# Altium schematic symbol library MCU_ST_STM32F4.SchLib: 300 symbols (part 8 of 11)
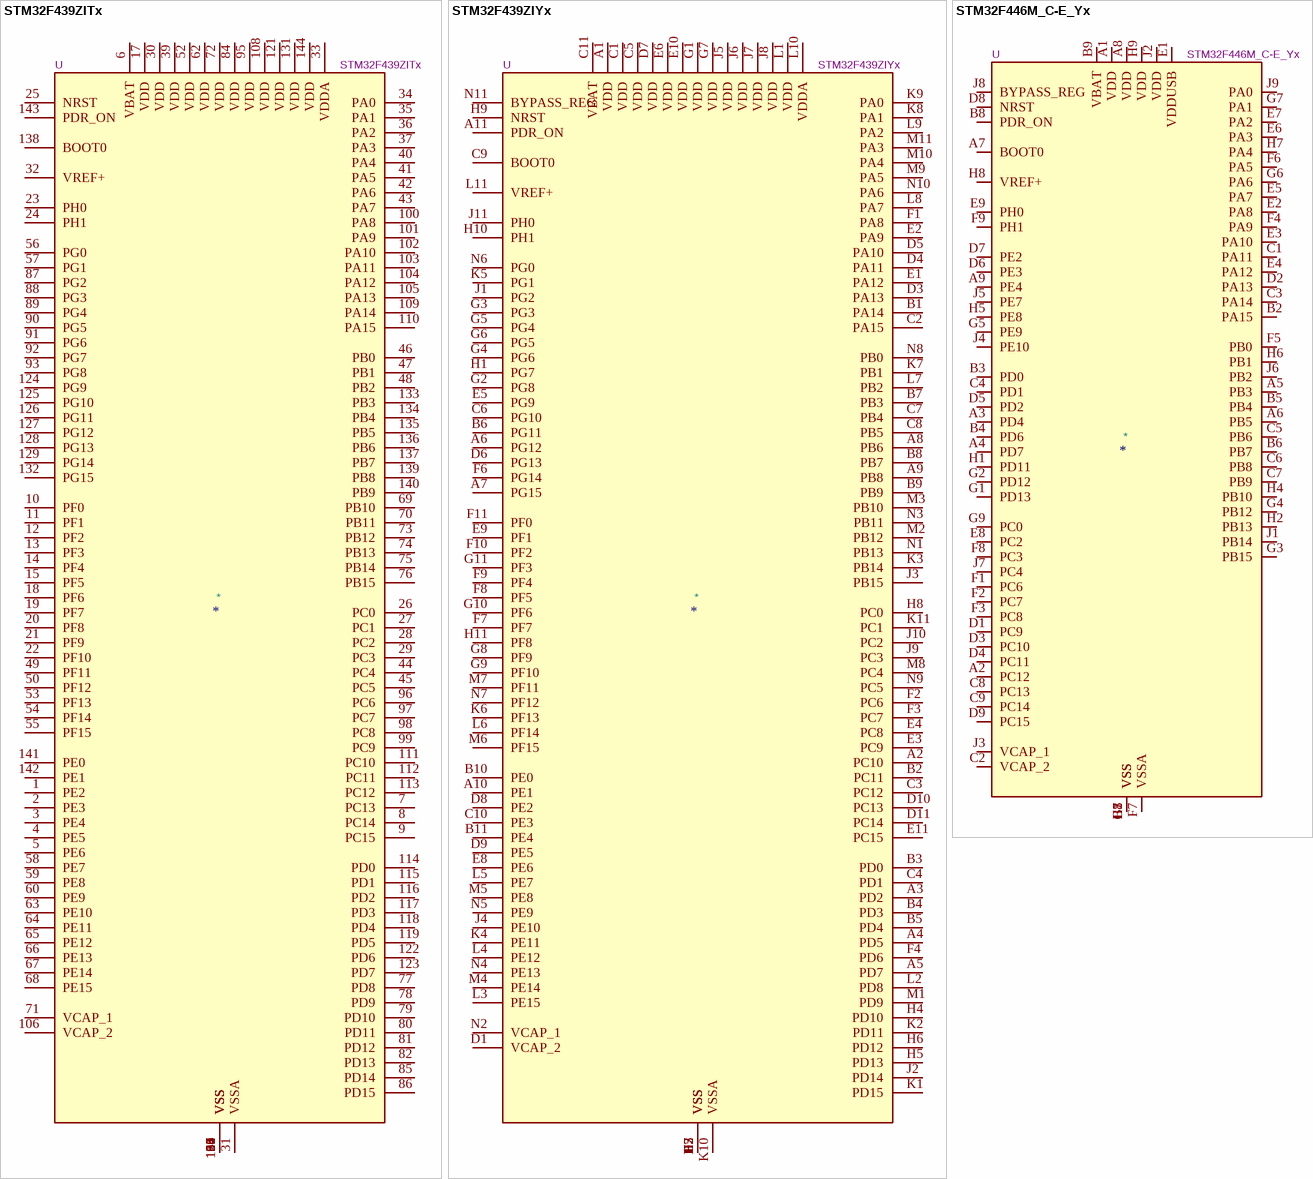
[diagram p89: symbols STM32F439ZITx to STM32F446M_C-E_Yx]

## STM32F439ZITx
designator *  value STM32F439ZITx  Reference: U
STMicroelectronics Arm Cortex-M4 MCU, 2048KB flash, 256KB RAM, 180 MHz, 1.7-3.6V, 114 GPIO, LQFP144; ki_keywords: Arm Cortex-M4 STM32F4 STM32F429/439; ki_fp_filters: LQFP*20x20mm*P0.5mm*; Footprint: Package_QFP:LQFP-144_20x20mm_P0.5mm; Datasheet: https://www.st.com/resource/en/datasheet/stm32f439zi.pdf; Description_: STMicroelectronics Arm Cortex-M4 MCU, 2048KB flash, 256KB RAM, 180 MHz, 1.7-3.6V, 114 GPIO, LQFP144
pins: 1 PE2, 2 PE3, 3 PE4, 4 PE5, 5 PE6, 6 VBAT, 7 PC13, 8 PC14, 9 PC15, 10 PF0, 11 PF1, 12 PF2, 13 PF3, 14 PF4, 15 PF5, 16 VSS, 17 VDD, 18 PF6, 19 PF7, 20 PF8, 21 PF9, 22 PF10, 23 PH0, 24 PH1, 25 NRST, 26 PC0, 27 PC1, 28 PC2, 29 PC3, 30 VDD, 31 VSSA, 32 VREF+, 33 VDDA, 34 PA0, 35 PA1, 36 PA2, 37 PA3, 38 VSS, 39 VDD, 40 PA4, 41 PA5, 42 PA6, 43 PA7, 44 PC4, 45 PC5, 46 PB0, 47 PB1, 48 PB2, 49 PF11, 50 PF12, 51 VSS, 52 VDD, 53 PF13, 54 PF14, 55 PF15, 56 PG0, 57 PG1, 58 PE7, 59 PE8, 60 PE9, 61 VSS, 62 VDD, 63 PE10, 64 PE11, 65 PE12, 66 PE13, 67 PE14, 68 PE15, 69 PB10, 70 PB11, 71 VCAP_1, 72 VDD, 73 PB12, 74 PB13, 75 PB14, 76 PB15, 77 PD8, 78 PD9, 79 PD10, 80 PD11, 81 PD12, 82 PD13, 83 VSS, 84 VDD, 85 PD14, 86 PD15, 87 PG2, 88 PG3, 89 PG4, 90 PG5, 91 PG6, 92 PG7, 93 PG8, 94 VSS, 95 VDD, 96 PC6, 97 PC7, 98 PC8, 99 PC9, 100 PA8, 101 PA9, 102 PA10, 103 PA11, 104 PA12, 105 PA13, 106 VCAP_2, 107 VSS, 108 VDD, 109 PA14, 110 PA15, 111 PC10, 112 PC11, 113 PC12, 114 PD0, 115 PD1, 116 PD2, 117 PD3, 118 PD4, 119 PD5, 120 VSS, 121 VDD, 122 PD6, 123 PD7, 124 PG9, 125 PG10, 126 PG11, 127 PG12, 128 PG13, 129 PG14, 130 VSS, 131 VDD, 132 PG15, 133 PB3, 134 PB4, 135 PB5, 136 PB6, 137 PB7, 138 BOOT0, 139 PB8, 140 PB9, 141 PE0, 142 PE1, 143 PDR_ON, 144 VDD

## STM32F439ZIYx
designator *  value STM32F439ZIYx  Reference: U
STMicroelectronics Arm Cortex-M4 MCU, 2048KB flash, 256KB RAM, 180 MHz, 1.7-3.6V, 114 GPIO, WLCSP143; ki_keywords: Arm Cortex-M4 STM32F4 STM32F429/439; ki_fp_filters: ST*WLCSP*Die419*; Footprint: Package_CSP:ST_WLCSP-143_Die419; Datasheet: https://www.st.com/resource/en/datasheet/stm32f439zi.pdf; Description_: STMicroelectronics Arm Cortex-M4 MCU, 2048KB flash, 256KB RAM, 180 MHz, 1.7-3.6V, 114 GPIO, WLCSP143
pins: A1 VDD, A2 PC10, A3 PD2, A4 PD5, A5 PD7, A6 PG12, A7 PG15, A8 PB6, A9 PB8, A10 PE1, A11 PDR_ON, B1 PA14, B2 PC11, B3 PD0, B4 PD3, B5 PD4, B6 PG11, B7 PB3, B8 PB7, B9 PB9, B10 PE0, B11 PE4, C1 VDD, C2 PA15, C3 PC12, C4 PD1, C5 VDD, C6 PG10, C7 PB4, C8 PB5, C9 BOOT0, C10 PE3, C11 VBAT, D1 VCAP_2, D2 VSS, D3 PA13, D4 PA11, D5 PA10, D6 PG13, D7 VDD, D8 PE2, D9 PE5, D10 PC13, D11 PC14, E1 PA12, E2 PA9, E3 PC9, E4 PC8, E5 PG9, E6 VDD, E7 VSS, E8 PE6, E9 PF1, E10 VDD, E11 PC15, F1 PA8, F2 PC6, F3 PC7, F4 PD6, F5 VSS, F6 PG14, F7 PF7, F8 PF5, F9 PF4, F10 PF2, F11 PF0, G1 VDD, G2 PG8, G3 PG3, G4 PG6, G5 PG4, G6 PG5, G7 VDD, G8 PF9, G9 PF10, G10 PF6, G11 PF3, H1 PG7, H2 VSS, H3 VSS, H4 PD10, H5 PD13, H6 PD12, H7 VSS, H8 PC0, H9 NRST, H10 PH1, H11 PF8, J1 PG2, J2 PD14, J3 PB15, J4 PE10, J5 VDD, J6 VDD, J7 VDD, J8 VDD, J9 PC3, J10 PC2, J11 PH0, K1 PD15, K2 PD11, K3 PB14, K4 PE11, K5 PG1, K6 PF13, K7 PB1, K8 PA1, K9 PA0, K10 VSSA, K11 PC1, L1 VDD, L2 PD8, L3 PE15, L4 PE12, L5 PE7, L6 PF14, L7 PB2, L8 PA7, L9 PA2, L10 VDDA, L11 VREF+, M1 PD9, M2 PB12, M3 PB10, M4 PE14, M5 PE8, M6 PF15, M7 PF11, M8 PC4, M9 PA5, M10 PA4, M11 PA3, N1 PB13, N2 VCAP_1, N3 PB11, N4 PE13, N5 PE9, N6 PG0, N7 PF12, N8 PB0, N9 PC5, N10 PA6, N11 BYPASS_REG

## STM32F446M_C-E_Yx
designator *  value STM32F446M_C-E_Yx  Reference: U
STMicroelectronics Arm Cortex-M4 MCU, 256-512KB flash, 128KB RAM, 180 MHz, 1.8-3.6V, 63 GPIO, WLCSP81; ki_keywords: Arm Cortex-M4 STM32F4 STM32F446; ki_fp_filters: ST*WLCSP*Die421*; Footprint: Package_CSP:ST_WLCSP-81_Die421; Datasheet: https://www.st.com/resource/en/datasheet/stm32f446mc.pdf; Description_: STMicroelectronics Arm Cortex-M4 MCU, 256-512KB flash, 128KB RAM, 180 MHz, 1.8-3.6V, 63 GPIO, WLCSP81
pins: A1 VDD, A2 PC12, A3 PD4, A4 PD7, A5 PB3, A6 PB5, A7 BOOT0, A8 VDD, A9 PE4, B1 VSS, B2 PA15, B3 PD0, B4 PD6, B5 PB4, B6 PB7, B7 VSS, B8 PDR_ON, B9 VBAT, C1 PA11, C2 VCAP_2, C3 PA14, C4 PD1, C5 PB6, C6 PB8, C7 PB9, C8 PC13, C9 PC14, D1 PC9, D2 PA13, D3 PC10, D4 PC11, D5 PD2, D6 PE3, D7 PE2, D8 NRST, D9 PC15, E1 VDDUSB, E2 PA8, E3 PA10, E4 PA12, E5 PA7, E6 PA3, E7 PA2, E8 PC2, E9 PH0, F1 PC6, F2 PC7, F3 PC8, F4 PA9, F5 PB0, F6 PA5, F7 VSSA, F8 PC3, F9 PH1, G1 PD13, G2 PD12, G3 PB15, G4 PB12, G5 PE9, G6 PA6, G7 PA1, G8 VSS, G9 PC0, H1 PD11, H2 PB13, H3 VSS, H4 PB10, H5 PE8, H6 PB1, H7 PA4, H8 VREF+, H9 VDD, J1 PB14, J2 VDD, J3 VCAP_1, J4 PE10, J5 PE7, J6 PB2, J7 PC4, J8 BYPASS_REG, J9 PA0

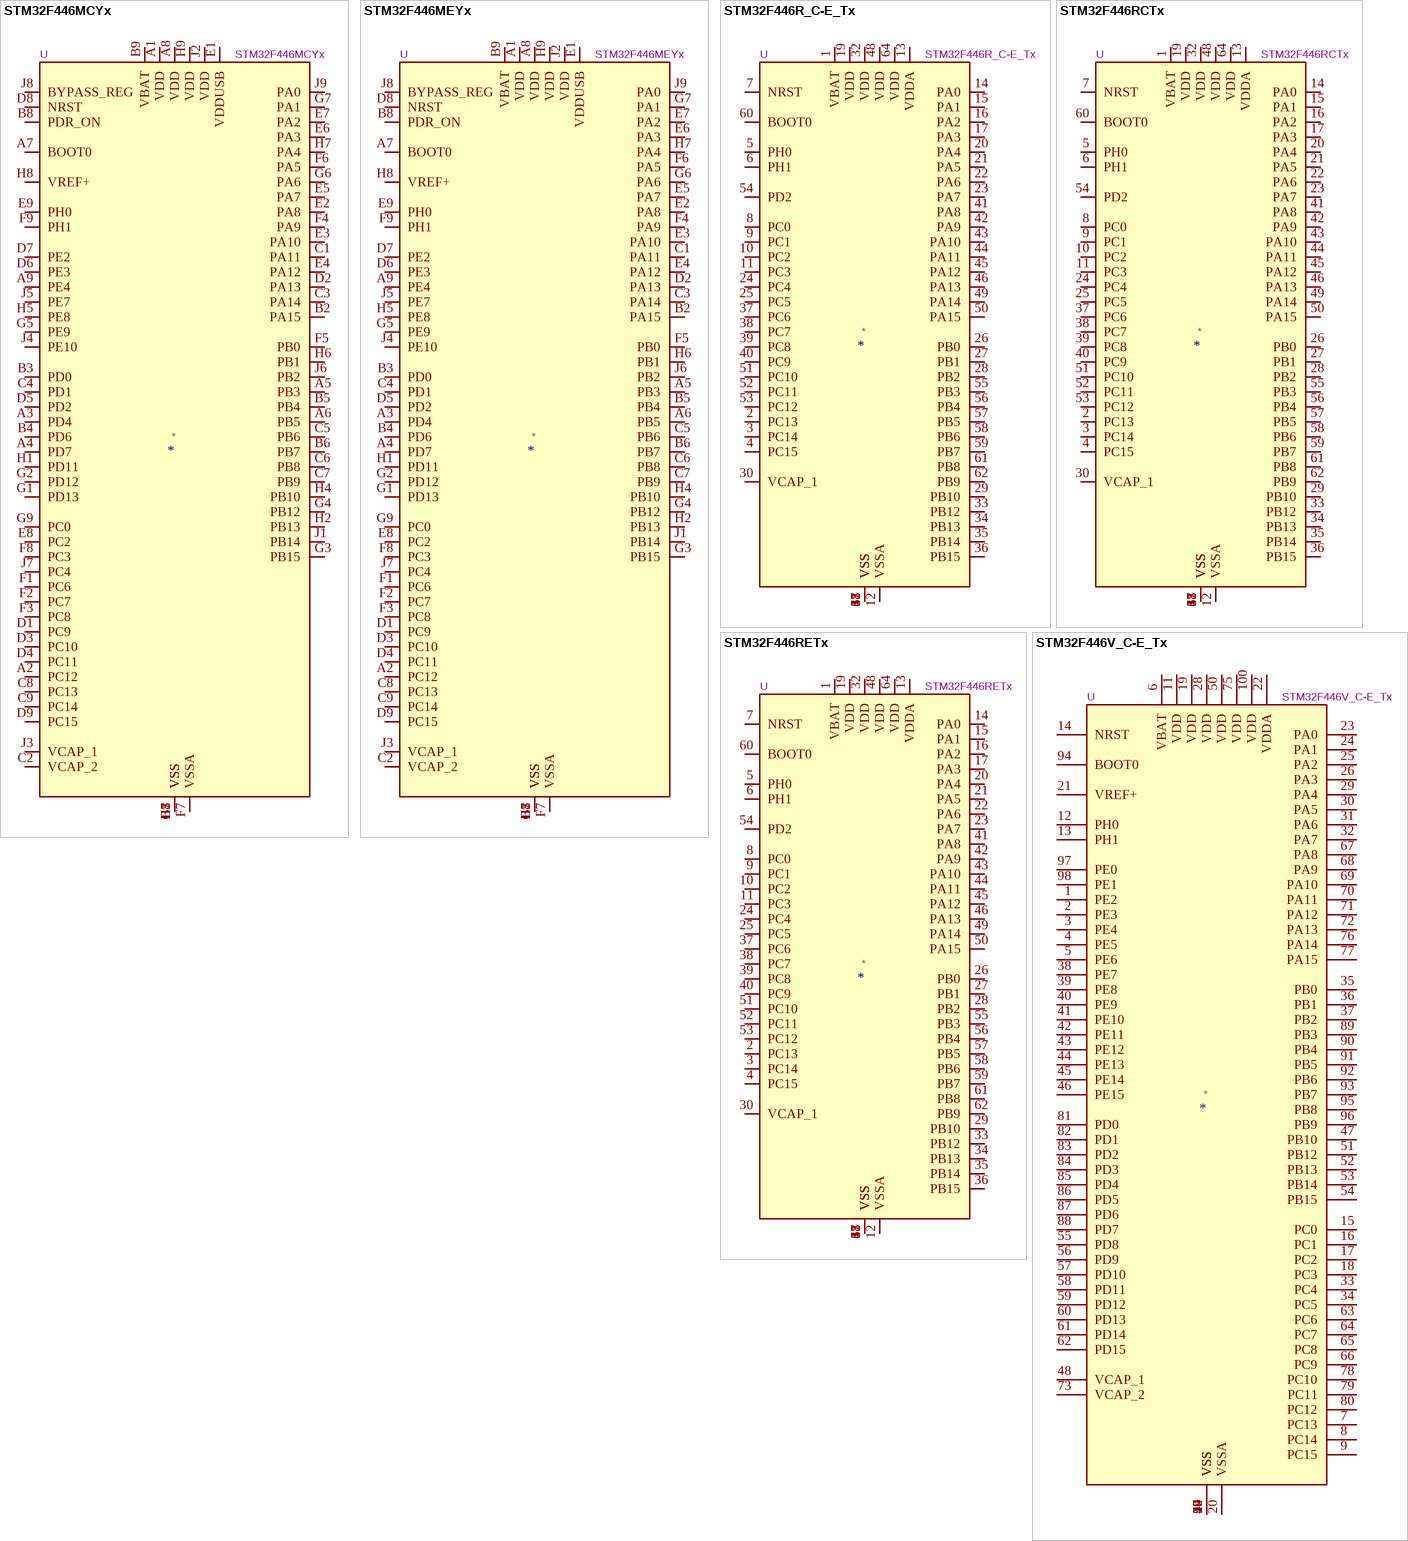
[diagram p56: symbols STM32F446MCYx to STM32F446V_C-E_Tx]

## STM32F446MCYx
designator *  value STM32F446MCYx  Reference: U
STMicroelectronics Arm Cortex-M4 MCU, 256KB flash, 128KB RAM, 180 MHz, 1.8-3.6V, 63 GPIO, WLCSP81; ki_keywords: Arm Cortex-M4 STM32F4 STM32F446; ki_fp_filters: ST*WLCSP*Die421*; Footprint: Package_CSP:ST_WLCSP-81_Die421; Datasheet: https://www.st.com/resource/en/datasheet/stm32f446mc.pdf; Description_: STMicroelectronics Arm Cortex-M4 MCU, 256KB flash, 128KB RAM, 180 MHz, 1.8-3.6V, 63 GPIO, WLCSP81
pins: A1 VDD, A2 PC12, A3 PD4, A4 PD7, A5 PB3, A6 PB5, A7 BOOT0, A8 VDD, A9 PE4, B1 VSS, B2 PA15, B3 PD0, B4 PD6, B5 PB4, B6 PB7, B7 VSS, B8 PDR_ON, B9 VBAT, C1 PA11, C2 VCAP_2, C3 PA14, C4 PD1, C5 PB6, C6 PB8, C7 PB9, C8 PC13, C9 PC14, D1 PC9, D2 PA13, D3 PC10, D4 PC11, D5 PD2, D6 PE3, D7 PE2, D8 NRST, D9 PC15, E1 VDDUSB, E2 PA8, E3 PA10, E4 PA12, E5 PA7, E6 PA3, E7 PA2, E8 PC2, E9 PH0, F1 PC6, F2 PC7, F3 PC8, F4 PA9, F5 PB0, F6 PA5, F7 VSSA, F8 PC3, F9 PH1, G1 PD13, G2 PD12, G3 PB15, G4 PB12, G5 PE9, G6 PA6, G7 PA1, G8 VSS, G9 PC0, H1 PD11, H2 PB13, H3 VSS, H4 PB10, H5 PE8, H6 PB1, H7 PA4, H8 VREF+, H9 VDD, J1 PB14, J2 VDD, J3 VCAP_1, J4 PE10, J5 PE7, J6 PB2, J7 PC4, J8 BYPASS_REG, J9 PA0

## STM32F446MEYx
designator *  value STM32F446MEYx  Reference: U
STMicroelectronics Arm Cortex-M4 MCU, 512KB flash, 128KB RAM, 180 MHz, 1.8-3.6V, 63 GPIO, WLCSP81; ki_keywords: Arm Cortex-M4 STM32F4 STM32F446; ki_fp_filters: ST*WLCSP*Die421*; Footprint: Package_CSP:ST_WLCSP-81_Die421; Datasheet: https://www.st.com/resource/en/datasheet/stm32f446me.pdf; Description_: STMicroelectronics Arm Cortex-M4 MCU, 512KB flash, 128KB RAM, 180 MHz, 1.8-3.6V, 63 GPIO, WLCSP81
pins: A1 VDD, A2 PC12, A3 PD4, A4 PD7, A5 PB3, A6 PB5, A7 BOOT0, A8 VDD, A9 PE4, B1 VSS, B2 PA15, B3 PD0, B4 PD6, B5 PB4, B6 PB7, B7 VSS, B8 PDR_ON, B9 VBAT, C1 PA11, C2 VCAP_2, C3 PA14, C4 PD1, C5 PB6, C6 PB8, C7 PB9, C8 PC13, C9 PC14, D1 PC9, D2 PA13, D3 PC10, D4 PC11, D5 PD2, D6 PE3, D7 PE2, D8 NRST, D9 PC15, E1 VDDUSB, E2 PA8, E3 PA10, E4 PA12, E5 PA7, E6 PA3, E7 PA2, E8 PC2, E9 PH0, F1 PC6, F2 PC7, F3 PC8, F4 PA9, F5 PB0, F6 PA5, F7 VSSA, F8 PC3, F9 PH1, G1 PD13, G2 PD12, G3 PB15, G4 PB12, G5 PE9, G6 PA6, G7 PA1, G8 VSS, G9 PC0, H1 PD11, H2 PB13, H3 VSS, H4 PB10, H5 PE8, H6 PB1, H7 PA4, H8 VREF+, H9 VDD, J1 PB14, J2 VDD, J3 VCAP_1, J4 PE10, J5 PE7, J6 PB2, J7 PC4, J8 BYPASS_REG, J9 PA0

## STM32F446R_C-E_Tx
designator *  value STM32F446R_C-E_Tx  Reference: U
STMicroelectronics Arm Cortex-M4 MCU, 256-512KB flash, 128KB RAM, 180 MHz, 1.8-3.6V, 50 GPIO, LQFP64; ki_keywords: Arm Cortex-M4 STM32F4 STM32F446; ki_fp_filters: LQFP*10x10mm*P0.5mm*; Footprint: Package_QFP:LQFP-64_10x10mm_P0.5mm; Datasheet: https://www.st.com/resource/en/datasheet/stm32f446rc.pdf; Description_: STMicroelectronics Arm Cortex-M4 MCU, 256-512KB flash, 128KB RAM, 180 MHz, 1.8-3.6V, 50 GPIO, LQFP64
pins: 1 VBAT, 2 PC13, 3 PC14, 4 PC15, 5 PH0, 6 PH1, 7 NRST, 8 PC0, 9 PC1, 10 PC2, 11 PC3, 12 VSSA, 13 VDDA, 14 PA0, 15 PA1, 16 PA2, 17 PA3, 18 VSS, 19 VDD, 20 PA4, 21 PA5, 22 PA6, 23 PA7, 24 PC4, 25 PC5, 26 PB0, 27 PB1, 28 PB2, 29 PB10, 30 VCAP_1, 31 VSS, 32 VDD, 33 PB12, 34 PB13, 35 PB14, 36 PB15, 37 PC6, 38 PC7, 39 PC8, 40 PC9, 41 PA8, 42 PA9, 43 PA10, 44 PA11, 45 PA12, 46 PA13, 47 VSS, 48 VDD, 49 PA14, 50 PA15, 51 PC10, 52 PC11, 53 PC12, 54 PD2, 55 PB3, 56 PB4, 57 PB5, 58 PB6, 59 PB7, 60 BOOT0, 61 PB8, 62 PB9, 63 VSS, 64 VDD

## STM32F446RCTx
designator *  value STM32F446RCTx  Reference: U
STMicroelectronics Arm Cortex-M4 MCU, 256KB flash, 128KB RAM, 180 MHz, 1.8-3.6V, 50 GPIO, LQFP64; ki_keywords: Arm Cortex-M4 STM32F4 STM32F446; ki_fp_filters: LQFP*10x10mm*P0.5mm*; Footprint: Package_QFP:LQFP-64_10x10mm_P0.5mm; Datasheet: https://www.st.com/resource/en/datasheet/stm32f446rc.pdf; Description_: STMicroelectronics Arm Cortex-M4 MCU, 256KB flash, 128KB RAM, 180 MHz, 1.8-3.6V, 50 GPIO, LQFP64
pins: 1 VBAT, 2 PC13, 3 PC14, 4 PC15, 5 PH0, 6 PH1, 7 NRST, 8 PC0, 9 PC1, 10 PC2, 11 PC3, 12 VSSA, 13 VDDA, 14 PA0, 15 PA1, 16 PA2, 17 PA3, 18 VSS, 19 VDD, 20 PA4, 21 PA5, 22 PA6, 23 PA7, 24 PC4, 25 PC5, 26 PB0, 27 PB1, 28 PB2, 29 PB10, 30 VCAP_1, 31 VSS, 32 VDD, 33 PB12, 34 PB13, 35 PB14, 36 PB15, 37 PC6, 38 PC7, 39 PC8, 40 PC9, 41 PA8, 42 PA9, 43 PA10, 44 PA11, 45 PA12, 46 PA13, 47 VSS, 48 VDD, 49 PA14, 50 PA15, 51 PC10, 52 PC11, 53 PC12, 54 PD2, 55 PB3, 56 PB4, 57 PB5, 58 PB6, 59 PB7, 60 BOOT0, 61 PB8, 62 PB9, 63 VSS, 64 VDD

## STM32F446RETx
designator *  value STM32F446RETx  Reference: U
STMicroelectronics Arm Cortex-M4 MCU, 512KB flash, 128KB RAM, 180 MHz, 1.8-3.6V, 50 GPIO, LQFP64; ki_keywords: Arm Cortex-M4 STM32F4 STM32F446; ki_fp_filters: LQFP*10x10mm*P0.5mm*; Footprint: Package_QFP:LQFP-64_10x10mm_P0.5mm; Datasheet: https://www.st.com/resource/en/datasheet/stm32f446re.pdf; Description_: STMicroelectronics Arm Cortex-M4 MCU, 512KB flash, 128KB RAM, 180 MHz, 1.8-3.6V, 50 GPIO, LQFP64
pins: 1 VBAT, 2 PC13, 3 PC14, 4 PC15, 5 PH0, 6 PH1, 7 NRST, 8 PC0, 9 PC1, 10 PC2, 11 PC3, 12 VSSA, 13 VDDA, 14 PA0, 15 PA1, 16 PA2, 17 PA3, 18 VSS, 19 VDD, 20 PA4, 21 PA5, 22 PA6, 23 PA7, 24 PC4, 25 PC5, 26 PB0, 27 PB1, 28 PB2, 29 PB10, 30 VCAP_1, 31 VSS, 32 VDD, 33 PB12, 34 PB13, 35 PB14, 36 PB15, 37 PC6, 38 PC7, 39 PC8, 40 PC9, 41 PA8, 42 PA9, 43 PA10, 44 PA11, 45 PA12, 46 PA13, 47 VSS, 48 VDD, 49 PA14, 50 PA15, 51 PC10, 52 PC11, 53 PC12, 54 PD2, 55 PB3, 56 PB4, 57 PB5, 58 PB6, 59 PB7, 60 BOOT0, 61 PB8, 62 PB9, 63 VSS, 64 VDD

## STM32F446V_C-E_Tx
designator *  value STM32F446V_C-E_Tx  Reference: U
STMicroelectronics Arm Cortex-M4 MCU, 256-512KB flash, 128KB RAM, 180 MHz, 1.8-3.6V, 81 GPIO, LQFP100; ki_keywords: Arm Cortex-M4 STM32F4 STM32F446; ki_fp_filters: LQFP*14x14mm*P0.5mm*; Footprint: Package_QFP:LQFP-100_14x14mm_P0.5mm; Datasheet: https://www.st.com/resource/en/datasheet/stm32f446vc.pdf; Description_: STMicroelectronics Arm Cortex-M4 MCU, 256-512KB flash, 128KB RAM, 180 MHz, 1.8-3.6V, 81 GPIO, LQFP100
pins: 1 PE2, 2 PE3, 3 PE4, 4 PE5, 5 PE6, 6 VBAT, 7 PC13, 8 PC14, 9 PC15, 10 VSS, 11 VDD, 12 PH0, 13 PH1, 14 NRST, 15 PC0, 16 PC1, 17 PC2, 18 PC3, 19 VDD, 20 VSSA, 21 VREF+, 22 VDDA, 23 PA0, 24 PA1, 25 PA2, 26 PA3, 27 VSS, 28 VDD, 29 PA4, 30 PA5, 31 PA6, 32 PA7, 33 PC4, 34 PC5, 35 PB0, 36 PB1, 37 PB2, 38 PE7, 39 PE8, 40 PE9, 41 PE10, 42 PE11, 43 PE12, 44 PE13, 45 PE14, 46 PE15, 47 PB10, 48 VCAP_1, 49 VSS, 50 VDD, 51 PB12, 52 PB13, 53 PB14, 54 PB15, 55 PD8, 56 PD9, 57 PD10, 58 PD11, 59 PD12, 60 PD13, 61 PD14, 62 PD15, 63 PC6, 64 PC7, 65 PC8, 66 PC9, 67 PA8, 68 PA9, 69 PA10, 70 PA11, 71 PA12, 72 PA13, 73 VCAP_2, 74 VSS, 75 VDD, 76 PA14, 77 PA15, 78 PC10, 79 PC11, 80 PC12, 81 PD0, 82 PD1, 83 PD2, 84 PD3, 85 PD4, 86 PD5, 87 PD6, 88 PD7, 89 PB3, 90 PB4, 91 PB5, 92 PB6, 93 PB7, 94 BOOT0, 95 PB8, 96 PB9, 97 PE0, 98 PE1, 99 VSS, 100 VDD

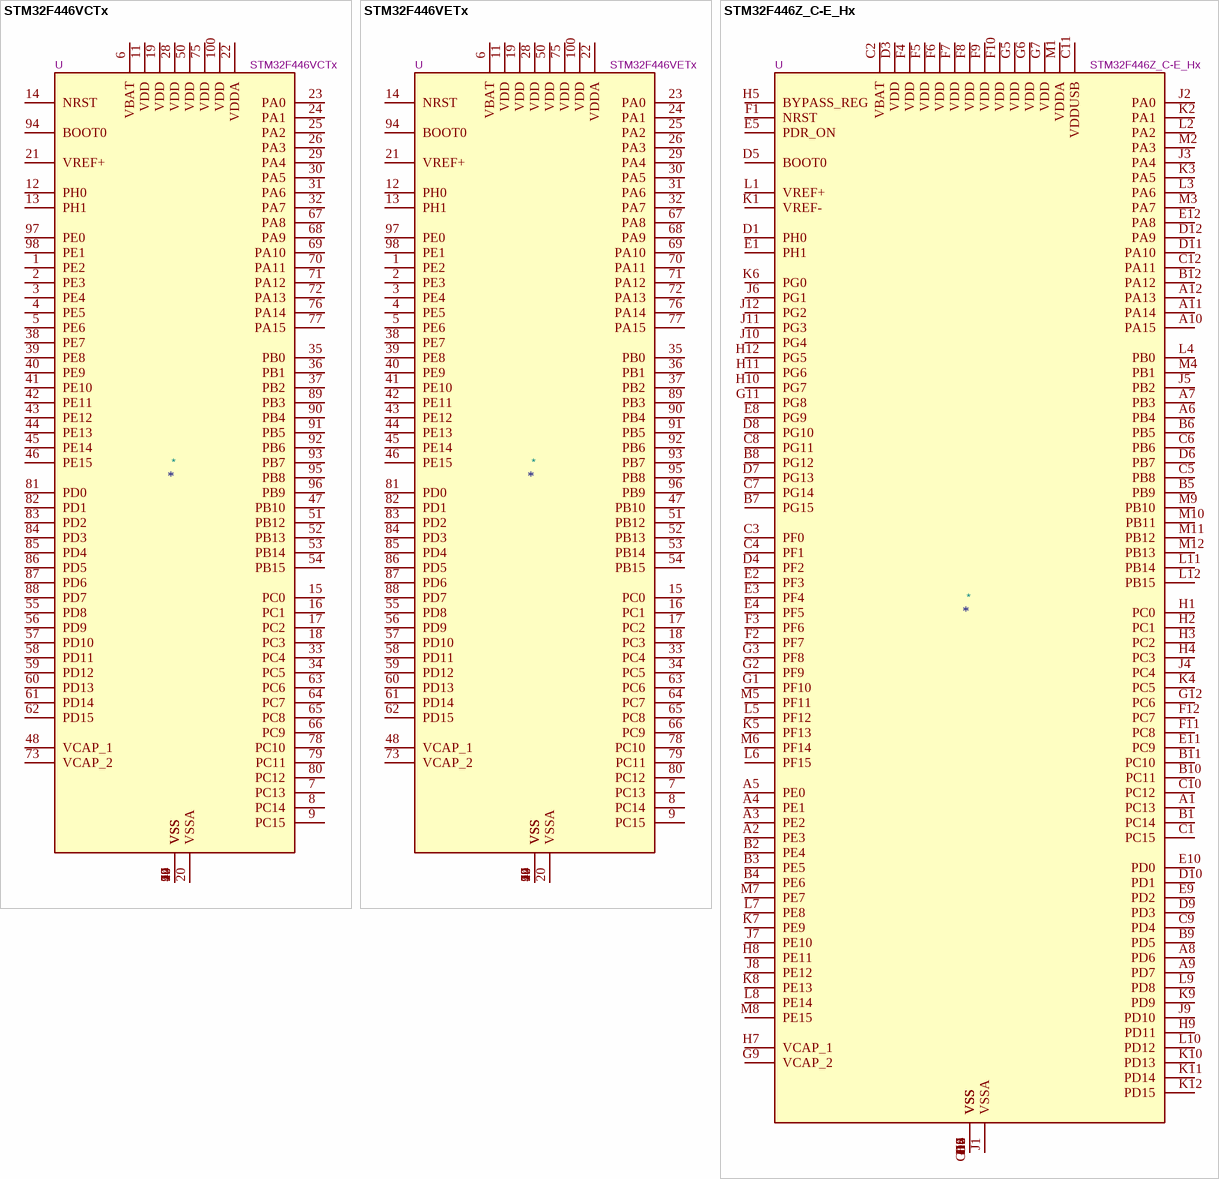
[diagram p57: symbols STM32F446VCTx to STM32F446Z_C-E_Hx]

## STM32F446VCTx
designator *  value STM32F446VCTx  Reference: U
STMicroelectronics Arm Cortex-M4 MCU, 256KB flash, 128KB RAM, 180 MHz, 1.8-3.6V, 81 GPIO, LQFP100; ki_keywords: Arm Cortex-M4 STM32F4 STM32F446; ki_fp_filters: LQFP*14x14mm*P0.5mm*; Footprint: Package_QFP:LQFP-100_14x14mm_P0.5mm; Datasheet: https://www.st.com/resource/en/datasheet/stm32f446vc.pdf; Description_: STMicroelectronics Arm Cortex-M4 MCU, 256KB flash, 128KB RAM, 180 MHz, 1.8-3.6V, 81 GPIO, LQFP100
pins: 1 PE2, 2 PE3, 3 PE4, 4 PE5, 5 PE6, 6 VBAT, 7 PC13, 8 PC14, 9 PC15, 10 VSS, 11 VDD, 12 PH0, 13 PH1, 14 NRST, 15 PC0, 16 PC1, 17 PC2, 18 PC3, 19 VDD, 20 VSSA, 21 VREF+, 22 VDDA, 23 PA0, 24 PA1, 25 PA2, 26 PA3, 27 VSS, 28 VDD, 29 PA4, 30 PA5, 31 PA6, 32 PA7, 33 PC4, 34 PC5, 35 PB0, 36 PB1, 37 PB2, 38 PE7, 39 PE8, 40 PE9, 41 PE10, 42 PE11, 43 PE12, 44 PE13, 45 PE14, 46 PE15, 47 PB10, 48 VCAP_1, 49 VSS, 50 VDD, 51 PB12, 52 PB13, 53 PB14, 54 PB15, 55 PD8, 56 PD9, 57 PD10, 58 PD11, 59 PD12, 60 PD13, 61 PD14, 62 PD15, 63 PC6, 64 PC7, 65 PC8, 66 PC9, 67 PA8, 68 PA9, 69 PA10, 70 PA11, 71 PA12, 72 PA13, 73 VCAP_2, 74 VSS, 75 VDD, 76 PA14, 77 PA15, 78 PC10, 79 PC11, 80 PC12, 81 PD0, 82 PD1, 83 PD2, 84 PD3, 85 PD4, 86 PD5, 87 PD6, 88 PD7, 89 PB3, 90 PB4, 91 PB5, 92 PB6, 93 PB7, 94 BOOT0, 95 PB8, 96 PB9, 97 PE0, 98 PE1, 99 VSS, 100 VDD

## STM32F446VETx
designator *  value STM32F446VETx  Reference: U
STMicroelectronics Arm Cortex-M4 MCU, 512KB flash, 128KB RAM, 180 MHz, 1.8-3.6V, 81 GPIO, LQFP100; ki_keywords: Arm Cortex-M4 STM32F4 STM32F446; ki_fp_filters: LQFP*14x14mm*P0.5mm*; Footprint: Package_QFP:LQFP-100_14x14mm_P0.5mm; Datasheet: https://www.st.com/resource/en/datasheet/stm32f446ve.pdf; Description_: STMicroelectronics Arm Cortex-M4 MCU, 512KB flash, 128KB RAM, 180 MHz, 1.8-3.6V, 81 GPIO, LQFP100
pins: 1 PE2, 2 PE3, 3 PE4, 4 PE5, 5 PE6, 6 VBAT, 7 PC13, 8 PC14, 9 PC15, 10 VSS, 11 VDD, 12 PH0, 13 PH1, 14 NRST, 15 PC0, 16 PC1, 17 PC2, 18 PC3, 19 VDD, 20 VSSA, 21 VREF+, 22 VDDA, 23 PA0, 24 PA1, 25 PA2, 26 PA3, 27 VSS, 28 VDD, 29 PA4, 30 PA5, 31 PA6, 32 PA7, 33 PC4, 34 PC5, 35 PB0, 36 PB1, 37 PB2, 38 PE7, 39 PE8, 40 PE9, 41 PE10, 42 PE11, 43 PE12, 44 PE13, 45 PE14, 46 PE15, 47 PB10, 48 VCAP_1, 49 VSS, 50 VDD, 51 PB12, 52 PB13, 53 PB14, 54 PB15, 55 PD8, 56 PD9, 57 PD10, 58 PD11, 59 PD12, 60 PD13, 61 PD14, 62 PD15, 63 PC6, 64 PC7, 65 PC8, 66 PC9, 67 PA8, 68 PA9, 69 PA10, 70 PA11, 71 PA12, 72 PA13, 73 VCAP_2, 74 VSS, 75 VDD, 76 PA14, 77 PA15, 78 PC10, 79 PC11, 80 PC12, 81 PD0, 82 PD1, 83 PD2, 84 PD3, 85 PD4, 86 PD5, 87 PD6, 88 PD7, 89 PB3, 90 PB4, 91 PB5, 92 PB6, 93 PB7, 94 BOOT0, 95 PB8, 96 PB9, 97 PE0, 98 PE1, 99 VSS, 100 VDD

## STM32F446Z_C-E_Hx
designator *  value STM32F446Z_C-E_Hx  Reference: U
STMicroelectronics Arm Cortex-M4 MCU, 256-512KB flash, 128KB RAM, 180 MHz, 1.8-3.6V, 114 GPIO, UFBGA144; ki_keywords: Arm Cortex-M4 STM32F4 STM32F446; ki_fp_filters: UFBGA*7x7mm*Layout12x12*P0.5mm*; Footprint: Package_BGA:UFBGA-144_7x7mm_Layout12x12_P0.5mm; Datasheet: https://www.st.com/resource/en/datasheet/stm32f446zc.pdf; Description_: STMicroelectronics Arm Cortex-M4 MCU, 256-512KB flash, 128KB RAM, 180 MHz, 1.8-3.6V, 114 GPIO, UFBGA144
pins: A1 PC13, A2 PE3, A3 PE2, A4 PE1, A5 PE0, A6 PB4, A7 PB3, A8 PD6, A9 PD7, A10 PA15, A11 PA14, A12 PA13, B1 PC14, B2 PE4, B3 PE5, B4 PE6, B5 PB9, B6 PB5, B7 PG15, B8 PG12, B9 PD5, B10 PC11, B11 PC10, B12 PA12, C1 PC15, C2 VBAT, C3 PF0, C4 PF1, C5 PB8, C6 PB6, C7 PG14, C8 PG11, C9 PD4, C10 PC12, C11 VDDUSB, C12 PA11, D1 PH0, D2 VSS, D3 VDD, D4 PF2, D5 BOOT0, D6 PB7, D7 PG13, D8 PG10, D9 PD3, D10 PD1, D11 PA10, D12 PA9, E1 PH1, E2 PF3, E3 PF4, E4 PF5, E5 PDR_ON, E6 VSS, E7 VSS, E8 PG9, E9 PD2, E10 PD0, E11 PC9, E12 PA8, F1 NRST, F2 PF7, F3 PF6, F4 VDD, F5 VDD, F6 VDD, F7 VDD, F8 VDD, F9 VDD, F10 VDD, F11 PC8, F12 PC7, G1 PF10, G2 PF9, G3 PF8, G4 VSS, G5 VDD, G6 VDD, G7 VDD, G8 VSS, G9 VCAP_2, G10 VSS, G11 PG8, G12 PC6, H1 PC0, H2 PC1, H3 PC2, H4 PC3, H5 BYPASS_REG, H6 VSS, H7 VCAP_1, H8 PE11, H9 PD11, H10 PG7, H11 PG6, H12 PG5, J1 VSSA, J2 PA0, J3 PA4, J4 PC4, J5 PB2, J6 PG1, J7 PE10, J8 PE12, J9 PD10, J10 PG4, J11 PG3, J12 PG2, K1 VREF-, K2 PA1, K3 PA5, K4 PC5, K5 PF13, K6 PG0, K7 PE9, K8 PE13, K9 PD9, K10 PD13, K11 PD14, K12 PD15, L1 VREF+, L2 PA2, L3 PA6, L4 PB0, L5 PF12, L6 PF15, L7 PE8, L8 PE14, L9 PD8, L10 PD12, L11 PB14, L12 PB15, M1 VDDA, M2 PA3, M3 PA7, M4 PB1, M5 PF11, M6 PF14, M7 PE7, M8 PE15, M9 PB10, M10 PB11, M11 PB12, M12 PB13

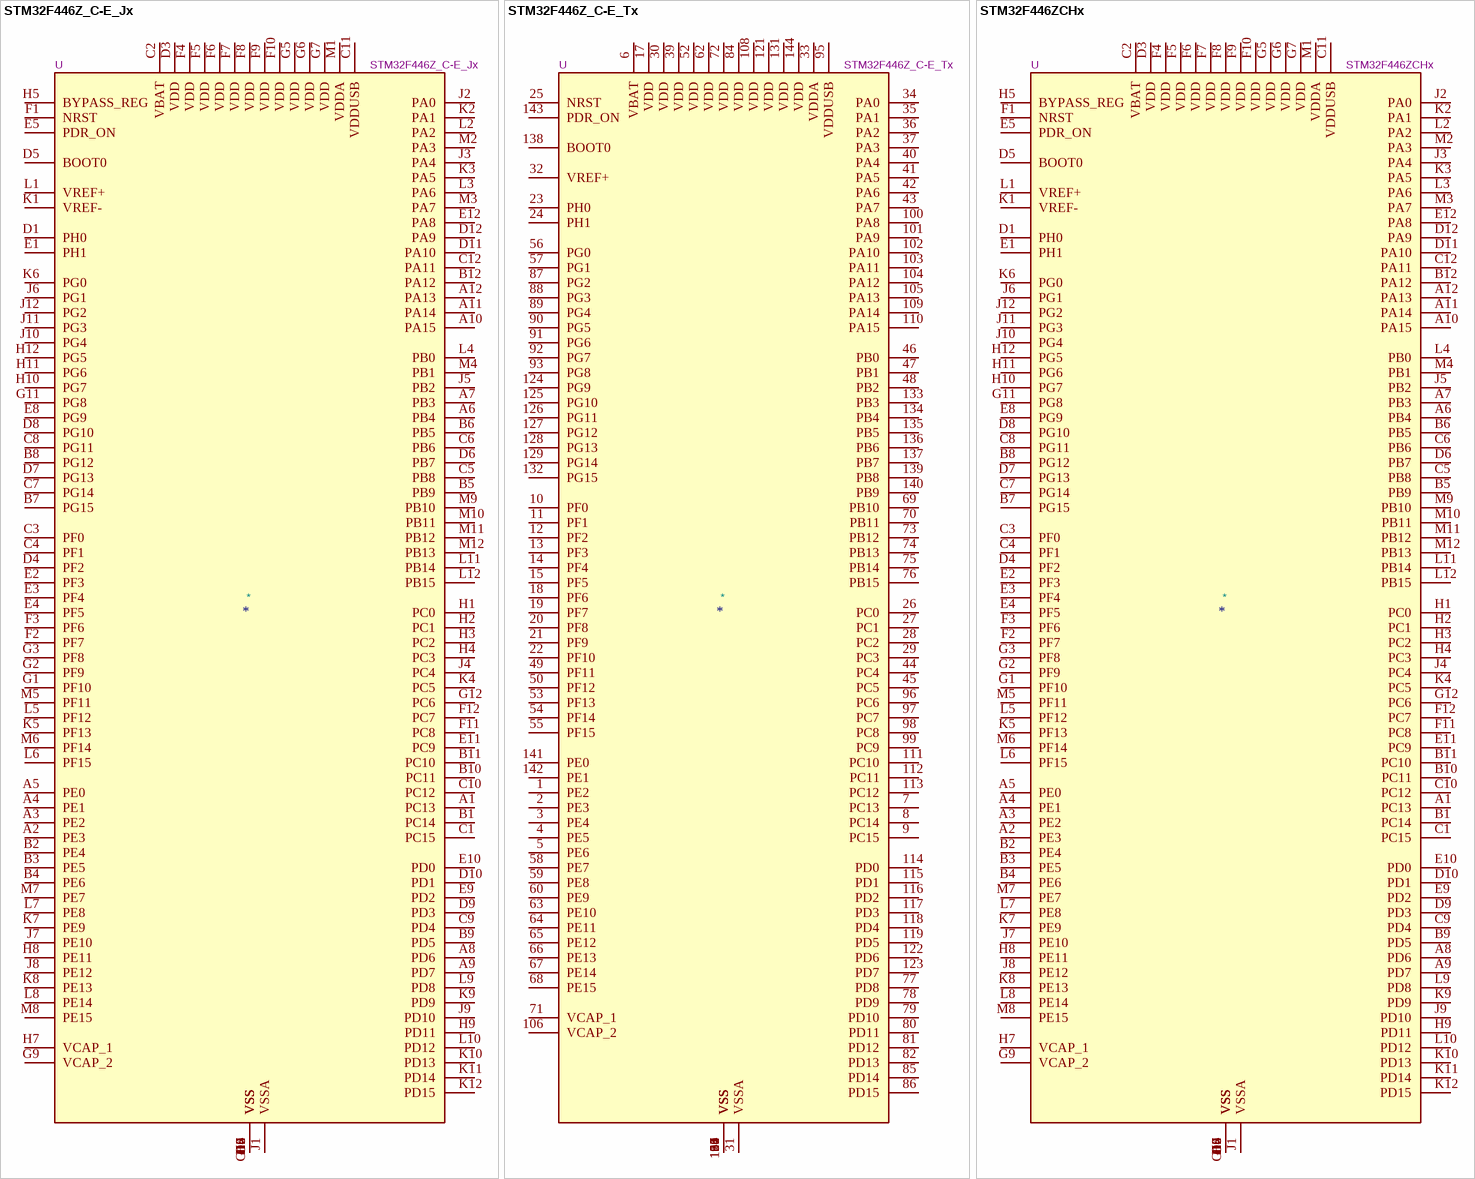
[diagram p58: symbols STM32F446Z_C-E_Jx to STM32F446ZCHx]

## STM32F446Z_C-E_Jx
designator *  value STM32F446Z_C-E_Jx  Reference: U
STMicroelectronics Arm Cortex-M4 MCU, 256-512KB flash, 128KB RAM, 180 MHz, 1.8-3.6V, 114 GPIO, UFBGA144; ki_keywords: Arm Cortex-M4 STM32F4 STM32F446; ki_fp_filters: UFBGA*10x10mm*Layout12x12*P0.8mm*; Footprint: Package_BGA:UFBGA-144_10x10mm_Layout12x12_P0.8mm; Datasheet: https://www.st.com/resource/en/datasheet/stm32f446zc.pdf; Description_: STMicroelectronics Arm Cortex-M4 MCU, 256-512KB flash, 128KB RAM, 180 MHz, 1.8-3.6V, 114 GPIO, UFBGA144
pins: A1 PC13, A2 PE3, A3 PE2, A4 PE1, A5 PE0, A6 PB4, A7 PB3, A8 PD6, A9 PD7, A10 PA15, A11 PA14, A12 PA13, B1 PC14, B2 PE4, B3 PE5, B4 PE6, B5 PB9, B6 PB5, B7 PG15, B8 PG12, B9 PD5, B10 PC11, B11 PC10, B12 PA12, C1 PC15, C2 VBAT, C3 PF0, C4 PF1, C5 PB8, C6 PB6, C7 PG14, C8 PG11, C9 PD4, C10 PC12, C11 VDDUSB, C12 PA11, D1 PH0, D2 VSS, D3 VDD, D4 PF2, D5 BOOT0, D6 PB7, D7 PG13, D8 PG10, D9 PD3, D10 PD1, D11 PA10, D12 PA9, E1 PH1, E2 PF3, E3 PF4, E4 PF5, E5 PDR_ON, E6 VSS, E7 VSS, E8 PG9, E9 PD2, E10 PD0, E11 PC9, E12 PA8, F1 NRST, F2 PF7, F3 PF6, F4 VDD, F5 VDD, F6 VDD, F7 VDD, F8 VDD, F9 VDD, F10 VDD, F11 PC8, F12 PC7, G1 PF10, G2 PF9, G3 PF8, G4 VSS, G5 VDD, G6 VDD, G7 VDD, G8 VSS, G9 VCAP_2, G10 VSS, G11 PG8, G12 PC6, H1 PC0, H2 PC1, H3 PC2, H4 PC3, H5 BYPASS_REG, H6 VSS, H7 VCAP_1, H8 PE11, H9 PD11, H10 PG7, H11 PG6, H12 PG5, J1 VSSA, J2 PA0, J3 PA4, J4 PC4, J5 PB2, J6 PG1, J7 PE10, J8 PE12, J9 PD10, J10 PG4, J11 PG3, J12 PG2, K1 VREF-, K2 PA1, K3 PA5, K4 PC5, K5 PF13, K6 PG0, K7 PE9, K8 PE13, K9 PD9, K10 PD13, K11 PD14, K12 PD15, L1 VREF+, L2 PA2, L3 PA6, L4 PB0, L5 PF12, L6 PF15, L7 PE8, L8 PE14, L9 PD8, L10 PD12, L11 PB14, L12 PB15, M1 VDDA, M2 PA3, M3 PA7, M4 PB1, M5 PF11, M6 PF14, M7 PE7, M8 PE15, M9 PB10, M10 PB11, M11 PB12, M12 PB13

## STM32F446Z_C-E_Tx
designator *  value STM32F446Z_C-E_Tx  Reference: U
STMicroelectronics Arm Cortex-M4 MCU, 256-512KB flash, 128KB RAM, 180 MHz, 1.8-3.6V, 114 GPIO, LQFP144; ki_keywords: Arm Cortex-M4 STM32F4 STM32F446; ki_fp_filters: LQFP*20x20mm*P0.5mm*; Footprint: Package_QFP:LQFP-144_20x20mm_P0.5mm; Datasheet: https://www.st.com/resource/en/datasheet/stm32f446zc.pdf; Description_: STMicroelectronics Arm Cortex-M4 MCU, 256-512KB flash, 128KB RAM, 180 MHz, 1.8-3.6V, 114 GPIO, LQFP144
pins: 1 PE2, 2 PE3, 3 PE4, 4 PE5, 5 PE6, 6 VBAT, 7 PC13, 8 PC14, 9 PC15, 10 PF0, 11 PF1, 12 PF2, 13 PF3, 14 PF4, 15 PF5, 16 VSS, 17 VDD, 18 PF6, 19 PF7, 20 PF8, 21 PF9, 22 PF10, 23 PH0, 24 PH1, 25 NRST, 26 PC0, 27 PC1, 28 PC2, 29 PC3, 30 VDD, 31 VSSA, 32 VREF+, 33 VDDA, 34 PA0, 35 PA1, 36 PA2, 37 PA3, 38 VSS, 39 VDD, 40 PA4, 41 PA5, 42 PA6, 43 PA7, 44 PC4, 45 PC5, 46 PB0, 47 PB1, 48 PB2, 49 PF11, 50 PF12, 51 VSS, 52 VDD, 53 PF13, 54 PF14, 55 PF15, 56 PG0, 57 PG1, 58 PE7, 59 PE8, 60 PE9, 61 VSS, 62 VDD, 63 PE10, 64 PE11, 65 PE12, 66 PE13, 67 PE14, 68 PE15, 69 PB10, 70 PB11, 71 VCAP_1, 72 VDD, 73 PB12, 74 PB13, 75 PB14, 76 PB15, 77 PD8, 78 PD9, 79 PD10, 80 PD11, 81 PD12, 82 PD13, 83 VSS, 84 VDD, 85 PD14, 86 PD15, 87 PG2, 88 PG3, 89 PG4, 90 PG5, 91 PG6, 92 PG7, 93 PG8, 94 VSS, 95 VDDUSB, 96 PC6, 97 PC7, 98 PC8, 99 PC9, 100 PA8, 101 PA9, 102 PA10, 103 PA11, 104 PA12, 105 PA13, 106 VCAP_2, 107 VSS, 108 VDD, 109 PA14, 110 PA15, 111 PC10, 112 PC11, 113 PC12, 114 PD0, 115 PD1, 116 PD2, 117 PD3, 118 PD4, 119 PD5, 120 VSS, 121 VDD, 122 PD6, 123 PD7, 124 PG9, 125 PG10, 126 PG11, 127 PG12, 128 PG13, 129 PG14, 130 VSS, 131 VDD, 132 PG15, 133 PB3, 134 PB4, 135 PB5, 136 PB6, 137 PB7, 138 BOOT0, 139 PB8, 140 PB9, 141 PE0, 142 PE1, 143 PDR_ON, 144 VDD

## STM32F446ZCHx
designator *  value STM32F446ZCHx  Reference: U
STMicroelectronics Arm Cortex-M4 MCU, 256KB flash, 128KB RAM, 180 MHz, 1.8-3.6V, 114 GPIO, UFBGA144; ki_keywords: Arm Cortex-M4 STM32F4 STM32F446; ki_fp_filters: UFBGA*7x7mm*Layout12x12*P0.5mm*; Footprint: Package_BGA:UFBGA-144_7x7mm_Layout12x12_P0.5mm; Datasheet: https://www.st.com/resource/en/datasheet/stm32f446zc.pdf; Description_: STMicroelectronics Arm Cortex-M4 MCU, 256KB flash, 128KB RAM, 180 MHz, 1.8-3.6V, 114 GPIO, UFBGA144
pins: A1 PC13, A2 PE3, A3 PE2, A4 PE1, A5 PE0, A6 PB4, A7 PB3, A8 PD6, A9 PD7, A10 PA15, A11 PA14, A12 PA13, B1 PC14, B2 PE4, B3 PE5, B4 PE6, B5 PB9, B6 PB5, B7 PG15, B8 PG12, B9 PD5, B10 PC11, B11 PC10, B12 PA12, C1 PC15, C2 VBAT, C3 PF0, C4 PF1, C5 PB8, C6 PB6, C7 PG14, C8 PG11, C9 PD4, C10 PC12, C11 VDDUSB, C12 PA11, D1 PH0, D2 VSS, D3 VDD, D4 PF2, D5 BOOT0, D6 PB7, D7 PG13, D8 PG10, D9 PD3, D10 PD1, D11 PA10, D12 PA9, E1 PH1, E2 PF3, E3 PF4, E4 PF5, E5 PDR_ON, E6 VSS, E7 VSS, E8 PG9, E9 PD2, E10 PD0, E11 PC9, E12 PA8, F1 NRST, F2 PF7, F3 PF6, F4 VDD, F5 VDD, F6 VDD, F7 VDD, F8 VDD, F9 VDD, F10 VDD, F11 PC8, F12 PC7, G1 PF10, G2 PF9, G3 PF8, G4 VSS, G5 VDD, G6 VDD, G7 VDD, G8 VSS, G9 VCAP_2, G10 VSS, G11 PG8, G12 PC6, H1 PC0, H2 PC1, H3 PC2, H4 PC3, H5 BYPASS_REG, H6 VSS, H7 VCAP_1, H8 PE11, H9 PD11, H10 PG7, H11 PG6, H12 PG5, J1 VSSA, J2 PA0, J3 PA4, J4 PC4, J5 PB2, J6 PG1, J7 PE10, J8 PE12, J9 PD10, J10 PG4, J11 PG3, J12 PG2, K1 VREF-, K2 PA1, K3 PA5, K4 PC5, K5 PF13, K6 PG0, K7 PE9, K8 PE13, K9 PD9, K10 PD13, K11 PD14, K12 PD15, L1 VREF+, L2 PA2, L3 PA6, L4 PB0, L5 PF12, L6 PF15, L7 PE8, L8 PE14, L9 PD8, L10 PD12, L11 PB14, L12 PB15, M1 VDDA, M2 PA3, M3 PA7, M4 PB1, M5 PF11, M6 PF14, M7 PE7, M8 PE15, M9 PB10, M10 PB11, M11 PB12, M12 PB13

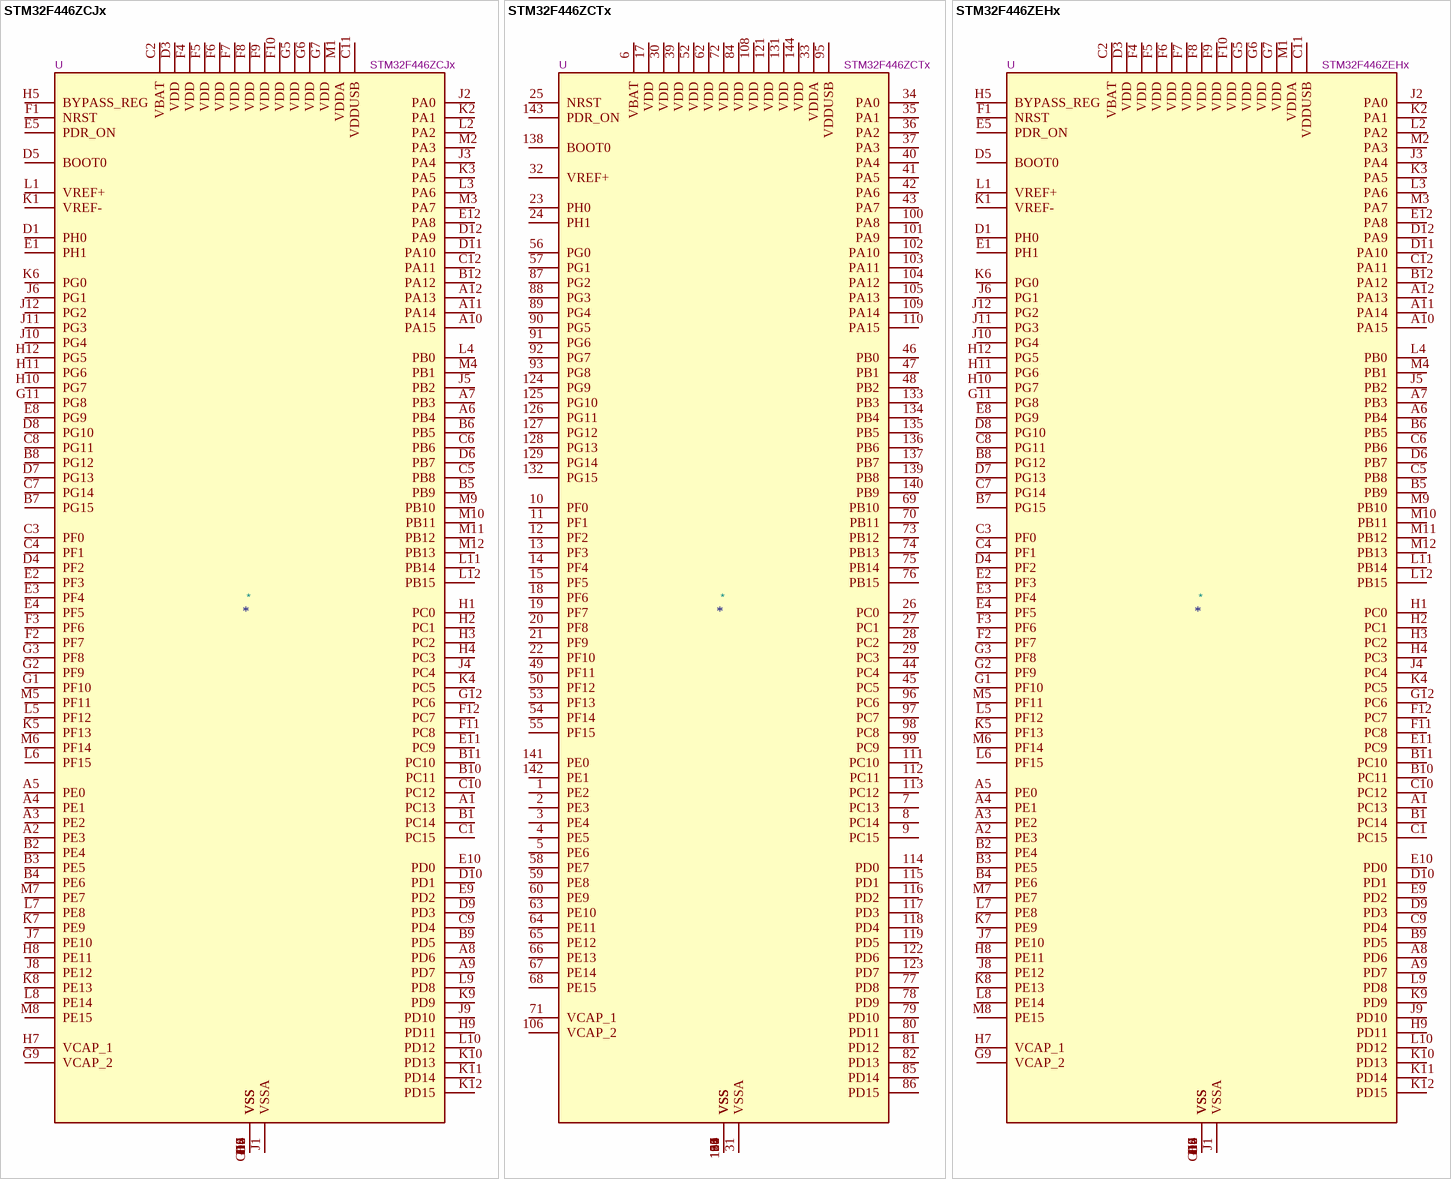
[diagram p59: symbols STM32F446ZCJx to STM32F446ZEHx]

## STM32F446ZCJx
designator *  value STM32F446ZCJx  Reference: U
STMicroelectronics Arm Cortex-M4 MCU, 256KB flash, 128KB RAM, 180 MHz, 1.8-3.6V, 114 GPIO, UFBGA144; ki_keywords: Arm Cortex-M4 STM32F4 STM32F446; ki_fp_filters: UFBGA*10x10mm*Layout12x12*P0.8mm*; Footprint: Package_BGA:UFBGA-144_10x10mm_Layout12x12_P0.8mm; Datasheet: https://www.st.com/resource/en/datasheet/stm32f446zc.pdf; Description_: STMicroelectronics Arm Cortex-M4 MCU, 256KB flash, 128KB RAM, 180 MHz, 1.8-3.6V, 114 GPIO, UFBGA144
pins: A1 PC13, A2 PE3, A3 PE2, A4 PE1, A5 PE0, A6 PB4, A7 PB3, A8 PD6, A9 PD7, A10 PA15, A11 PA14, A12 PA13, B1 PC14, B2 PE4, B3 PE5, B4 PE6, B5 PB9, B6 PB5, B7 PG15, B8 PG12, B9 PD5, B10 PC11, B11 PC10, B12 PA12, C1 PC15, C2 VBAT, C3 PF0, C4 PF1, C5 PB8, C6 PB6, C7 PG14, C8 PG11, C9 PD4, C10 PC12, C11 VDDUSB, C12 PA11, D1 PH0, D2 VSS, D3 VDD, D4 PF2, D5 BOOT0, D6 PB7, D7 PG13, D8 PG10, D9 PD3, D10 PD1, D11 PA10, D12 PA9, E1 PH1, E2 PF3, E3 PF4, E4 PF5, E5 PDR_ON, E6 VSS, E7 VSS, E8 PG9, E9 PD2, E10 PD0, E11 PC9, E12 PA8, F1 NRST, F2 PF7, F3 PF6, F4 VDD, F5 VDD, F6 VDD, F7 VDD, F8 VDD, F9 VDD, F10 VDD, F11 PC8, F12 PC7, G1 PF10, G2 PF9, G3 PF8, G4 VSS, G5 VDD, G6 VDD, G7 VDD, G8 VSS, G9 VCAP_2, G10 VSS, G11 PG8, G12 PC6, H1 PC0, H2 PC1, H3 PC2, H4 PC3, H5 BYPASS_REG, H6 VSS, H7 VCAP_1, H8 PE11, H9 PD11, H10 PG7, H11 PG6, H12 PG5, J1 VSSA, J2 PA0, J3 PA4, J4 PC4, J5 PB2, J6 PG1, J7 PE10, J8 PE12, J9 PD10, J10 PG4, J11 PG3, J12 PG2, K1 VREF-, K2 PA1, K3 PA5, K4 PC5, K5 PF13, K6 PG0, K7 PE9, K8 PE13, K9 PD9, K10 PD13, K11 PD14, K12 PD15, L1 VREF+, L2 PA2, L3 PA6, L4 PB0, L5 PF12, L6 PF15, L7 PE8, L8 PE14, L9 PD8, L10 PD12, L11 PB14, L12 PB15, M1 VDDA, M2 PA3, M3 PA7, M4 PB1, M5 PF11, M6 PF14, M7 PE7, M8 PE15, M9 PB10, M10 PB11, M11 PB12, M12 PB13

## STM32F446ZCTx
designator *  value STM32F446ZCTx  Reference: U
STMicroelectronics Arm Cortex-M4 MCU, 256KB flash, 128KB RAM, 180 MHz, 1.8-3.6V, 114 GPIO, LQFP144; ki_keywords: Arm Cortex-M4 STM32F4 STM32F446; ki_fp_filters: LQFP*20x20mm*P0.5mm*; Footprint: Package_QFP:LQFP-144_20x20mm_P0.5mm; Datasheet: https://www.st.com/resource/en/datasheet/stm32f446zc.pdf; Description_: STMicroelectronics Arm Cortex-M4 MCU, 256KB flash, 128KB RAM, 180 MHz, 1.8-3.6V, 114 GPIO, LQFP144
pins: 1 PE2, 2 PE3, 3 PE4, 4 PE5, 5 PE6, 6 VBAT, 7 PC13, 8 PC14, 9 PC15, 10 PF0, 11 PF1, 12 PF2, 13 PF3, 14 PF4, 15 PF5, 16 VSS, 17 VDD, 18 PF6, 19 PF7, 20 PF8, 21 PF9, 22 PF10, 23 PH0, 24 PH1, 25 NRST, 26 PC0, 27 PC1, 28 PC2, 29 PC3, 30 VDD, 31 VSSA, 32 VREF+, 33 VDDA, 34 PA0, 35 PA1, 36 PA2, 37 PA3, 38 VSS, 39 VDD, 40 PA4, 41 PA5, 42 PA6, 43 PA7, 44 PC4, 45 PC5, 46 PB0, 47 PB1, 48 PB2, 49 PF11, 50 PF12, 51 VSS, 52 VDD, 53 PF13, 54 PF14, 55 PF15, 56 PG0, 57 PG1, 58 PE7, 59 PE8, 60 PE9, 61 VSS, 62 VDD, 63 PE10, 64 PE11, 65 PE12, 66 PE13, 67 PE14, 68 PE15, 69 PB10, 70 PB11, 71 VCAP_1, 72 VDD, 73 PB12, 74 PB13, 75 PB14, 76 PB15, 77 PD8, 78 PD9, 79 PD10, 80 PD11, 81 PD12, 82 PD13, 83 VSS, 84 VDD, 85 PD14, 86 PD15, 87 PG2, 88 PG3, 89 PG4, 90 PG5, 91 PG6, 92 PG7, 93 PG8, 94 VSS, 95 VDDUSB, 96 PC6, 97 PC7, 98 PC8, 99 PC9, 100 PA8, 101 PA9, 102 PA10, 103 PA11, 104 PA12, 105 PA13, 106 VCAP_2, 107 VSS, 108 VDD, 109 PA14, 110 PA15, 111 PC10, 112 PC11, 113 PC12, 114 PD0, 115 PD1, 116 PD2, 117 PD3, 118 PD4, 119 PD5, 120 VSS, 121 VDD, 122 PD6, 123 PD7, 124 PG9, 125 PG10, 126 PG11, 127 PG12, 128 PG13, 129 PG14, 130 VSS, 131 VDD, 132 PG15, 133 PB3, 134 PB4, 135 PB5, 136 PB6, 137 PB7, 138 BOOT0, 139 PB8, 140 PB9, 141 PE0, 142 PE1, 143 PDR_ON, 144 VDD

## STM32F446ZEHx
designator *  value STM32F446ZEHx  Reference: U
STMicroelectronics Arm Cortex-M4 MCU, 512KB flash, 128KB RAM, 180 MHz, 1.8-3.6V, 114 GPIO, UFBGA144; ki_keywords: Arm Cortex-M4 STM32F4 STM32F446; ki_fp_filters: UFBGA*7x7mm*Layout12x12*P0.5mm*; Footprint: Package_BGA:UFBGA-144_7x7mm_Layout12x12_P0.5mm; Datasheet: https://www.st.com/resource/en/datasheet/stm32f446ze.pdf; Description_: STMicroelectronics Arm Cortex-M4 MCU, 512KB flash, 128KB RAM, 180 MHz, 1.8-3.6V, 114 GPIO, UFBGA144
pins: A1 PC13, A2 PE3, A3 PE2, A4 PE1, A5 PE0, A6 PB4, A7 PB3, A8 PD6, A9 PD7, A10 PA15, A11 PA14, A12 PA13, B1 PC14, B2 PE4, B3 PE5, B4 PE6, B5 PB9, B6 PB5, B7 PG15, B8 PG12, B9 PD5, B10 PC11, B11 PC10, B12 PA12, C1 PC15, C2 VBAT, C3 PF0, C4 PF1, C5 PB8, C6 PB6, C7 PG14, C8 PG11, C9 PD4, C10 PC12, C11 VDDUSB, C12 PA11, D1 PH0, D2 VSS, D3 VDD, D4 PF2, D5 BOOT0, D6 PB7, D7 PG13, D8 PG10, D9 PD3, D10 PD1, D11 PA10, D12 PA9, E1 PH1, E2 PF3, E3 PF4, E4 PF5, E5 PDR_ON, E6 VSS, E7 VSS, E8 PG9, E9 PD2, E10 PD0, E11 PC9, E12 PA8, F1 NRST, F2 PF7, F3 PF6, F4 VDD, F5 VDD, F6 VDD, F7 VDD, F8 VDD, F9 VDD, F10 VDD, F11 PC8, F12 PC7, G1 PF10, G2 PF9, G3 PF8, G4 VSS, G5 VDD, G6 VDD, G7 VDD, G8 VSS, G9 VCAP_2, G10 VSS, G11 PG8, G12 PC6, H1 PC0, H2 PC1, H3 PC2, H4 PC3, H5 BYPASS_REG, H6 VSS, H7 VCAP_1, H8 PE11, H9 PD11, H10 PG7, H11 PG6, H12 PG5, J1 VSSA, J2 PA0, J3 PA4, J4 PC4, J5 PB2, J6 PG1, J7 PE10, J8 PE12, J9 PD10, J10 PG4, J11 PG3, J12 PG2, K1 VREF-, K2 PA1, K3 PA5, K4 PC5, K5 PF13, K6 PG0, K7 PE9, K8 PE13, K9 PD9, K10 PD13, K11 PD14, K12 PD15, L1 VREF+, L2 PA2, L3 PA6, L4 PB0, L5 PF12, L6 PF15, L7 PE8, L8 PE14, L9 PD8, L10 PD12, L11 PB14, L12 PB15, M1 VDDA, M2 PA3, M3 PA7, M4 PB1, M5 PF11, M6 PF14, M7 PE7, M8 PE15, M9 PB10, M10 PB11, M11 PB12, M12 PB13

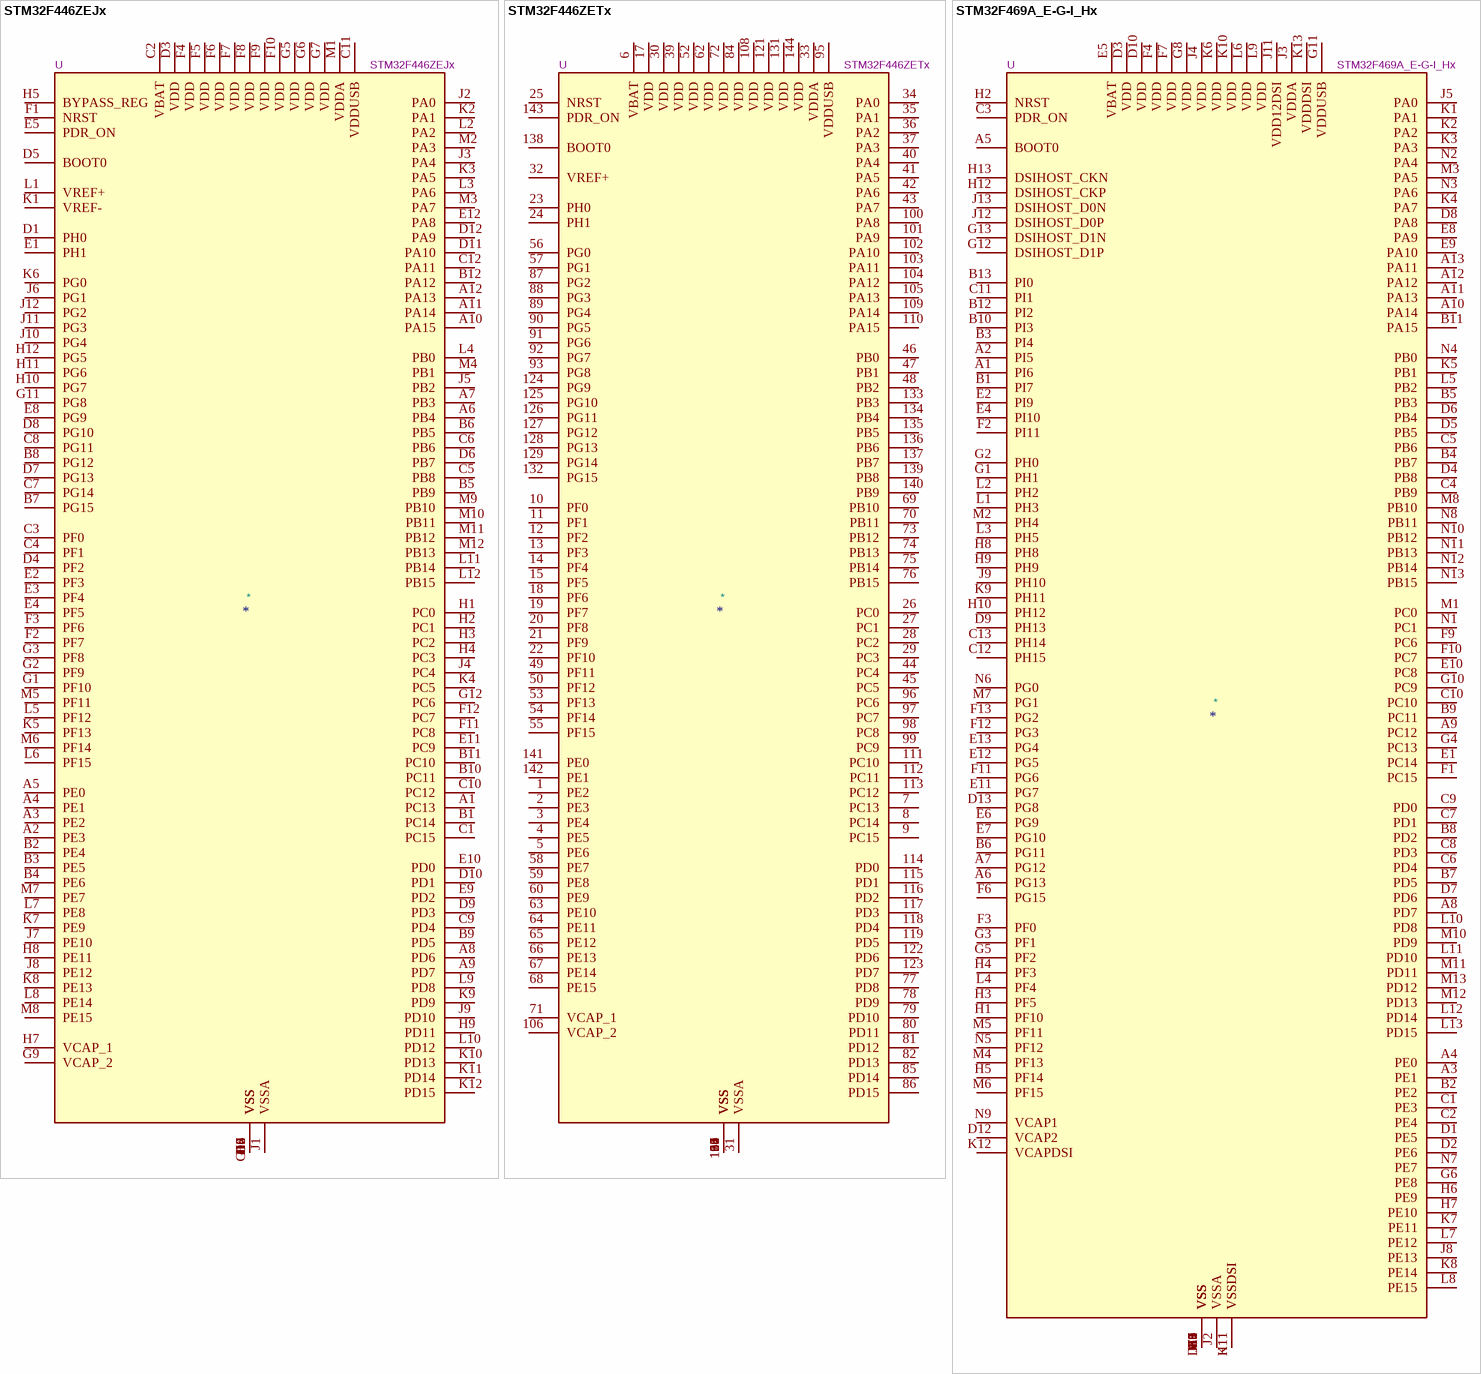
[diagram p60: symbols STM32F446ZEJx to STM32F469A_E-G-I_Hx]

## STM32F446ZEJx
designator *  value STM32F446ZEJx  Reference: U
STMicroelectronics Arm Cortex-M4 MCU, 512KB flash, 128KB RAM, 180 MHz, 1.8-3.6V, 114 GPIO, UFBGA144; ki_keywords: Arm Cortex-M4 STM32F4 STM32F446; ki_fp_filters: UFBGA*10x10mm*Layout12x12*P0.8mm*; Footprint: Package_BGA:UFBGA-144_10x10mm_Layout12x12_P0.8mm; Datasheet: https://www.st.com/resource/en/datasheet/stm32f446ze.pdf; Description_: STMicroelectronics Arm Cortex-M4 MCU, 512KB flash, 128KB RAM, 180 MHz, 1.8-3.6V, 114 GPIO, UFBGA144
pins: A1 PC13, A2 PE3, A3 PE2, A4 PE1, A5 PE0, A6 PB4, A7 PB3, A8 PD6, A9 PD7, A10 PA15, A11 PA14, A12 PA13, B1 PC14, B2 PE4, B3 PE5, B4 PE6, B5 PB9, B6 PB5, B7 PG15, B8 PG12, B9 PD5, B10 PC11, B11 PC10, B12 PA12, C1 PC15, C2 VBAT, C3 PF0, C4 PF1, C5 PB8, C6 PB6, C7 PG14, C8 PG11, C9 PD4, C10 PC12, C11 VDDUSB, C12 PA11, D1 PH0, D2 VSS, D3 VDD, D4 PF2, D5 BOOT0, D6 PB7, D7 PG13, D8 PG10, D9 PD3, D10 PD1, D11 PA10, D12 PA9, E1 PH1, E2 PF3, E3 PF4, E4 PF5, E5 PDR_ON, E6 VSS, E7 VSS, E8 PG9, E9 PD2, E10 PD0, E11 PC9, E12 PA8, F1 NRST, F2 PF7, F3 PF6, F4 VDD, F5 VDD, F6 VDD, F7 VDD, F8 VDD, F9 VDD, F10 VDD, F11 PC8, F12 PC7, G1 PF10, G2 PF9, G3 PF8, G4 VSS, G5 VDD, G6 VDD, G7 VDD, G8 VSS, G9 VCAP_2, G10 VSS, G11 PG8, G12 PC6, H1 PC0, H2 PC1, H3 PC2, H4 PC3, H5 BYPASS_REG, H6 VSS, H7 VCAP_1, H8 PE11, H9 PD11, H10 PG7, H11 PG6, H12 PG5, J1 VSSA, J2 PA0, J3 PA4, J4 PC4, J5 PB2, J6 PG1, J7 PE10, J8 PE12, J9 PD10, J10 PG4, J11 PG3, J12 PG2, K1 VREF-, K2 PA1, K3 PA5, K4 PC5, K5 PF13, K6 PG0, K7 PE9, K8 PE13, K9 PD9, K10 PD13, K11 PD14, K12 PD15, L1 VREF+, L2 PA2, L3 PA6, L4 PB0, L5 PF12, L6 PF15, L7 PE8, L8 PE14, L9 PD8, L10 PD12, L11 PB14, L12 PB15, M1 VDDA, M2 PA3, M3 PA7, M4 PB1, M5 PF11, M6 PF14, M7 PE7, M8 PE15, M9 PB10, M10 PB11, M11 PB12, M12 PB13

## STM32F446ZETx
designator *  value STM32F446ZETx  Reference: U
STMicroelectronics Arm Cortex-M4 MCU, 512KB flash, 128KB RAM, 180 MHz, 1.8-3.6V, 114 GPIO, LQFP144; ki_keywords: Arm Cortex-M4 STM32F4 STM32F446; ki_fp_filters: LQFP*20x20mm*P0.5mm*; Footprint: Package_QFP:LQFP-144_20x20mm_P0.5mm; Datasheet: https://www.st.com/resource/en/datasheet/stm32f446ze.pdf; Description_: STMicroelectronics Arm Cortex-M4 MCU, 512KB flash, 128KB RAM, 180 MHz, 1.8-3.6V, 114 GPIO, LQFP144
pins: 1 PE2, 2 PE3, 3 PE4, 4 PE5, 5 PE6, 6 VBAT, 7 PC13, 8 PC14, 9 PC15, 10 PF0, 11 PF1, 12 PF2, 13 PF3, 14 PF4, 15 PF5, 16 VSS, 17 VDD, 18 PF6, 19 PF7, 20 PF8, 21 PF9, 22 PF10, 23 PH0, 24 PH1, 25 NRST, 26 PC0, 27 PC1, 28 PC2, 29 PC3, 30 VDD, 31 VSSA, 32 VREF+, 33 VDDA, 34 PA0, 35 PA1, 36 PA2, 37 PA3, 38 VSS, 39 VDD, 40 PA4, 41 PA5, 42 PA6, 43 PA7, 44 PC4, 45 PC5, 46 PB0, 47 PB1, 48 PB2, 49 PF11, 50 PF12, 51 VSS, 52 VDD, 53 PF13, 54 PF14, 55 PF15, 56 PG0, 57 PG1, 58 PE7, 59 PE8, 60 PE9, 61 VSS, 62 VDD, 63 PE10, 64 PE11, 65 PE12, 66 PE13, 67 PE14, 68 PE15, 69 PB10, 70 PB11, 71 VCAP_1, 72 VDD, 73 PB12, 74 PB13, 75 PB14, 76 PB15, 77 PD8, 78 PD9, 79 PD10, 80 PD11, 81 PD12, 82 PD13, 83 VSS, 84 VDD, 85 PD14, 86 PD15, 87 PG2, 88 PG3, 89 PG4, 90 PG5, 91 PG6, 92 PG7, 93 PG8, 94 VSS, 95 VDDUSB, 96 PC6, 97 PC7, 98 PC8, 99 PC9, 100 PA8, 101 PA9, 102 PA10, 103 PA11, 104 PA12, 105 PA13, 106 VCAP_2, 107 VSS, 108 VDD, 109 PA14, 110 PA15, 111 PC10, 112 PC11, 113 PC12, 114 PD0, 115 PD1, 116 PD2, 117 PD3, 118 PD4, 119 PD5, 120 VSS, 121 VDD, 122 PD6, 123 PD7, 124 PG9, 125 PG10, 126 PG11, 127 PG12, 128 PG13, 129 PG14, 130 VSS, 131 VDD, 132 PG15, 133 PB3, 134 PB4, 135 PB5, 136 PB6, 137 PB7, 138 BOOT0, 139 PB8, 140 PB9, 141 PE0, 142 PE1, 143 PDR_ON, 144 VDD

## STM32F469A_E-G-I_Hx
designator *  value STM32F469A_E-G-I_Hx  Reference: U
STMicroelectronics Arm Cortex-M4 MCU, 512-2048KB flash, 384KB RAM, 180 MHz, 1.7-3.6V, 128 GPIO, UFBGA169; ki_keywords: Arm Cortex-M4 STM32F4 STM32F469/479; ki_fp_filters: UFBGA*7x7mm*Layout13x13*P0.5mm*; Footprint: Package_BGA:UFBGA-169_7x7mm_Layout13x13_P0.5mm; Datasheet: https://www.st.com/resource/en/datasheet/stm32f469ae.pdf; Description_: STMicroelectronics Arm Cortex-M4 MCU, 512-2048KB flash, 384KB RAM, 180 MHz, 1.7-3.6V, 128 GPIO, UFBGA169
pins: A1 PI6, A2 PI5, A3 PE1, A4 PE0, A5 BOOT0, A6 PG13, A7 PG12, A8 PD7, A9 PC12, A10 PA14, A11 PA13, A12 PA12, A13 PA11, B1 PI7, B2 PE2, B3 PI4, B4 PB7, B5 PB3, B6 PG11, B7 PD5, B8 PD2, B9 PC11, B10 PI3, B11 PA15, B12 PI2, B13 PI0, C1 PE3, C2 PE4, C3 PDR_ON, C4 PB9, C5 PB6, C6 PD4, C7 PD1, C8 PD3, C9 PD0, C10 PC10, C11 PI1, C12 PH15, C13 PH14, D1 PE5, D2 PE6, D3 VDD, D4 PB8, D5 PB5, D6 PB4, D7 PD6, D8 PA8, D9 PH13, D10 VDD, D11 VSS, D12 VCAP2, D13 PG8, E1 PC14, E2 PI9, E3 VSS, E4 PI10, E5 VBAT, E6 PG9, E7 PG10, E8 PA9, E9 PA10, E10 PC8, E11 PG7, E12 PG5, E13 PG4, F1 PC15, F2 PI11, F3 PF0, F4 VDD, F5 VSS, F6 PG15, F7 VDD, F8 VSS, F9 PC6, F10 PC7, F11 PG6, F12 PG3, F13 PG2, G1 PH1, G2 PH0, G3 PF1, G4 PC13, G5 PF2, G6 PE8, G7 VSS, G8 VDD, G9 VSS, G10 PC9, G11 VDDUSB, G12 DSIHOST_D1P, G13 DSIHOST_D1N, H1 PF10, H2 NRST, H3 PF5, H4 PF3, H5 PF14, H6 PE9, H7 PE10, H8 PH8, H9 PH9, H10 PH12, H11 VSSDSI, H12 DSIHOST_CKP, H13 DSIHOST_CKN, J1 VSS, J2 VSSA, J3 VDDA, J4 VDD, J5 PA0, J6 VSS, J7 VSS, J8 PE13, J9 PH10, J10 VSS, J11 VDD12DSI, J12 DSIHOST_D0P, J13 DSIHOST_D0N, K1 PA1, K2 PA2, K3 PA3, K4 PA7, K5 PB1, K6 VDD, K7 PE11, K8 PE14, K9 PH11, K10 VDD, K11 VSSDSI, K12 VCAPDSI, K13 VDDDSI, L1 PH3, L2 PH2, L3 PH5, L4 PF4, L5 PB2, L6 VDD, L7 PE12, L8 PE15, L9 VDD, L10 PD8, L11 PD10, L12 PD14, L13 PD15, M1 PC0, M2 PH4, M3 PA5, M4 PF13, M5 PF11, M6 PF15, M7 PG1, M8 PB10, M9 VSS, M10 PD9, M11 PD11, M12 PD13, M13 PD12, N1 PC1, N2 PA4, N3 PA6, N4 PB0, N5 PF12, N6 PG0, N7 PE7, N8 PB11, N9 VCAP1, N10 PB12, N11 PB13, N12 PB14, N13 PB15

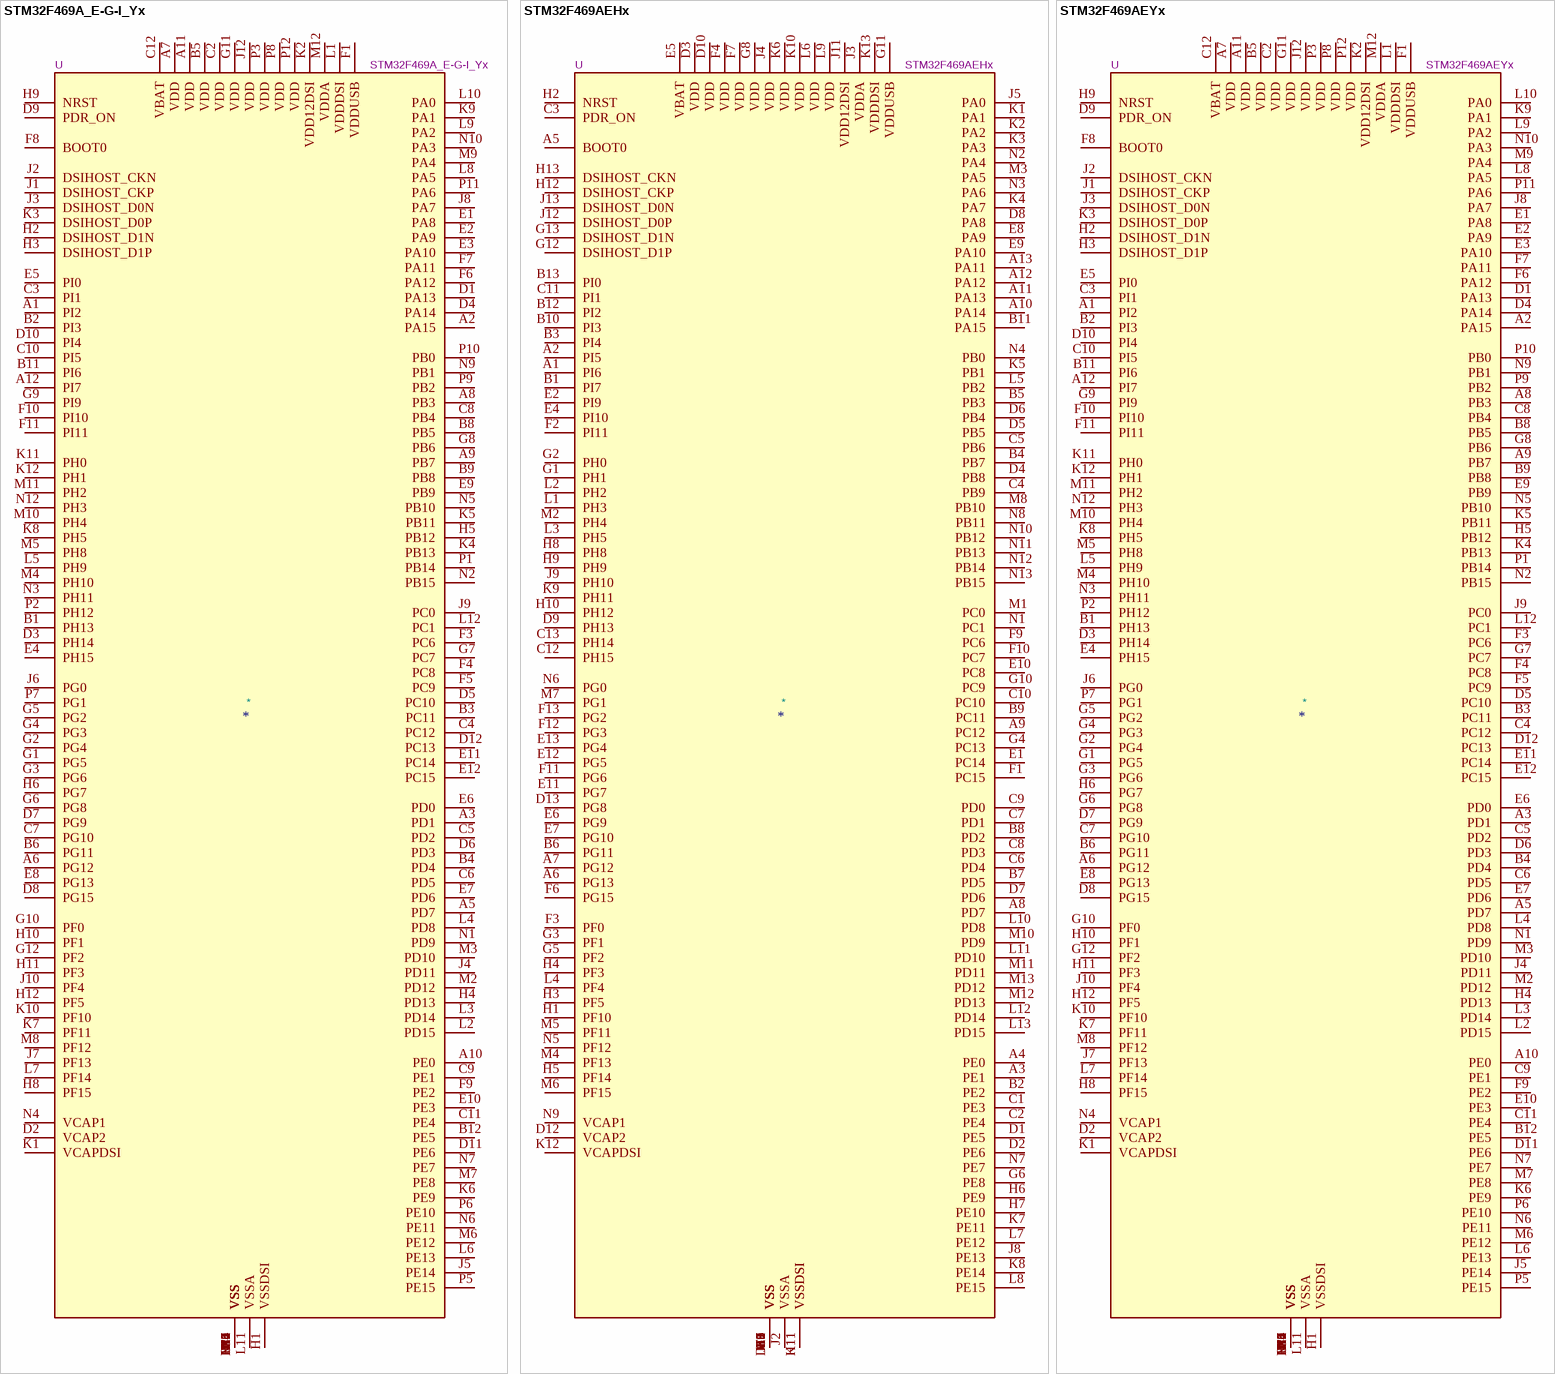
[diagram p61: symbols STM32F469A_E-G-I_Yx to STM32F469AEYx]

## STM32F469A_E-G-I_Yx
designator *  value STM32F469A_E-G-I_Yx  Reference: U
STMicroelectronics Arm Cortex-M4 MCU, 512-2048KB flash, 384KB RAM, 180 MHz, 1.7-3.6V, 128 GPIO, WLCSP168; ki_keywords: Arm Cortex-M4 STM32F4 STM32F469/479; ki_fp_filters: ST*WLCSP*Die434*; Footprint: Package_CSP:ST_WLCSP-168_Die434; Datasheet: https://www.st.com/resource/en/datasheet/stm32f469ae.pdf; Description_: STMicroelectronics Arm Cortex-M4 MCU, 512-2048KB flash, 384KB RAM, 180 MHz, 1.7-3.6V, 128 GPIO, WLCSP168
pins: A1 PI2, A2 PA15, A3 PD1, A4 VSS, A5 PD7, A6 PG12, A7 VDD, A8 PB3, A9 PB7, A10 PE0, A11 VDD, A12 PI7, B1 PH13, B2 PI3, B3 PC11, B4 PD4, B5 VDD, B6 PG11, B7 VSS, B8 PB5, B9 PB8, B10 VSS, B11 PI6, B12 PE5, C1 VSS, C2 VDD, C3 PI1, C4 PC12, C5 PD2, C6 PD5, C7 PG10, C8 PB4, C9 PE1, C10 PI5, C11 PE4, C12 VBAT, D1 PA13, D2 VCAP2, D3 PH14, D4 PA14, D5 PC10, D6 PD3, D7 PG9, D8 PG15, D9 PDR_ON, D10 PI4, D11 PE6, D12 PC13, E1 PA8, E2 PA9, E3 PA10, E4 PH15, E5 PI0, E6 PD0, E7 PD6, E8 PG13, E9 PB9, E10 PE3, E11 PC14, E12 PC15, F1 VDDUSB, F2 VSS, F3 PC6, F4 PC8, F5 PC9, F6 PA12, F7 PA11, F8 BOOT0, F9 PE2, F10 PI10, F11 PI11, F12 VSS, G1 PG5, G2 PG4, G3 PG6, G4 PG3, G5 PG2, G6 PG8, G7 PC7, G8 PB6, G9 PI9, G10 PF0, G11 VDD, G12 PF2, H1 VSSDSI, H2 DSIHOST_D1N, H3 DSIHOST_D1P, H4 PD13, H5 PB12, H6 PG7, H7 VSS, H8 PF15, H9 NRST, H10 PF1, H11 PF3, H12 PF5, J1 DSIHOST_CKP, J2 DSIHOST_CKN, J3 DSIHOST_D0N, J4 PD11, J5 PE14, J6 PG0, J7 PF13, J8 PA7, J9 PC0, J10 PF4, J11 VSS, J12 VDD, K1 VCAPDSI, K2 VDD12DSI, K3 DSIHOST_D0P, K4 PB13, K5 PB11, K6 PE9, K7 PF11, K8 PH5, K9 PA1, K10 PF10, K11 PH0, K12 PH1, L1 VDDDSI, L2 PD15, L3 PD14, L4 PD8, L5 PH9, L6 PE13, L7 PF14, L8 PA5, L9 PA2, L10 PA0, L11 VSSA, L12 PC1, M1 VSS, M2 PD12, M3 PD10, M4 PH10, M5 PH8, M6 PE12, M7 PE8, M8 PF12, M9 PA4, M10 PH4, M11 PH2, M12 VDDA, N1 PD9, N2 PB15, N3 PH11, N4 VCAP1, N5 PB10, N6 PE11, N7 PE7, N8 VSS, N9 PB1, N10 PA3, N11 VSS, N12 PH3, P1 PB14, P2 PH12, P3 VDD, P4 VSS, P5 PE15, P6 PE10, P7 PG1, P8 VDD, P9 PB2, P10 PB0, P11 PA6, P12 VDD

## STM32F469AEHx
designator *  value STM32F469AEHx  Reference: U
STMicroelectronics Arm Cortex-M4 MCU, 512KB flash, 384KB RAM, 180 MHz, 1.7-3.6V, 128 GPIO, UFBGA169; ki_keywords: Arm Cortex-M4 STM32F4 STM32F469/479; ki_fp_filters: UFBGA*7x7mm*Layout13x13*P0.5mm*; Footprint: Package_BGA:UFBGA-169_7x7mm_Layout13x13_P0.5mm; Datasheet: https://www.st.com/resource/en/datasheet/stm32f469ae.pdf; Description_: STMicroelectronics Arm Cortex-M4 MCU, 512KB flash, 384KB RAM, 180 MHz, 1.7-3.6V, 128 GPIO, UFBGA169
pins: A1 PI6, A2 PI5, A3 PE1, A4 PE0, A5 BOOT0, A6 PG13, A7 PG12, A8 PD7, A9 PC12, A10 PA14, A11 PA13, A12 PA12, A13 PA11, B1 PI7, B2 PE2, B3 PI4, B4 PB7, B5 PB3, B6 PG11, B7 PD5, B8 PD2, B9 PC11, B10 PI3, B11 PA15, B12 PI2, B13 PI0, C1 PE3, C2 PE4, C3 PDR_ON, C4 PB9, C5 PB6, C6 PD4, C7 PD1, C8 PD3, C9 PD0, C10 PC10, C11 PI1, C12 PH15, C13 PH14, D1 PE5, D2 PE6, D3 VDD, D4 PB8, D5 PB5, D6 PB4, D7 PD6, D8 PA8, D9 PH13, D10 VDD, D11 VSS, D12 VCAP2, D13 PG8, E1 PC14, E2 PI9, E3 VSS, E4 PI10, E5 VBAT, E6 PG9, E7 PG10, E8 PA9, E9 PA10, E10 PC8, E11 PG7, E12 PG5, E13 PG4, F1 PC15, F2 PI11, F3 PF0, F4 VDD, F5 VSS, F6 PG15, F7 VDD, F8 VSS, F9 PC6, F10 PC7, F11 PG6, F12 PG3, F13 PG2, G1 PH1, G2 PH0, G3 PF1, G4 PC13, G5 PF2, G6 PE8, G7 VSS, G8 VDD, G9 VSS, G10 PC9, G11 VDDUSB, G12 DSIHOST_D1P, G13 DSIHOST_D1N, H1 PF10, H2 NRST, H3 PF5, H4 PF3, H5 PF14, H6 PE9, H7 PE10, H8 PH8, H9 PH9, H10 PH12, H11 VSSDSI, H12 DSIHOST_CKP, H13 DSIHOST_CKN, J1 VSS, J2 VSSA, J3 VDDA, J4 VDD, J5 PA0, J6 VSS, J7 VSS, J8 PE13, J9 PH10, J10 VSS, J11 VDD12DSI, J12 DSIHOST_D0P, J13 DSIHOST_D0N, K1 PA1, K2 PA2, K3 PA3, K4 PA7, K5 PB1, K6 VDD, K7 PE11, K8 PE14, K9 PH11, K10 VDD, K11 VSSDSI, K12 VCAPDSI, K13 VDDDSI, L1 PH3, L2 PH2, L3 PH5, L4 PF4, L5 PB2, L6 VDD, L7 PE12, L8 PE15, L9 VDD, L10 PD8, L11 PD10, L12 PD14, L13 PD15, M1 PC0, M2 PH4, M3 PA5, M4 PF13, M5 PF11, M6 PF15, M7 PG1, M8 PB10, M9 VSS, M10 PD9, M11 PD11, M12 PD13, M13 PD12, N1 PC1, N2 PA4, N3 PA6, N4 PB0, N5 PF12, N6 PG0, N7 PE7, N8 PB11, N9 VCAP1, N10 PB12, N11 PB13, N12 PB14, N13 PB15

## STM32F469AEYx
designator *  value STM32F469AEYx  Reference: U
STMicroelectronics Arm Cortex-M4 MCU, 512KB flash, 384KB RAM, 180 MHz, 1.7-3.6V, 128 GPIO, WLCSP168; ki_keywords: Arm Cortex-M4 STM32F4 STM32F469/479; ki_fp_filters: ST*WLCSP*Die434*; Footprint: Package_CSP:ST_WLCSP-168_Die434; Datasheet: https://www.st.com/resource/en/datasheet/stm32f469ae.pdf; Description_: STMicroelectronics Arm Cortex-M4 MCU, 512KB flash, 384KB RAM, 180 MHz, 1.7-3.6V, 128 GPIO, WLCSP168
pins: A1 PI2, A2 PA15, A3 PD1, A4 VSS, A5 PD7, A6 PG12, A7 VDD, A8 PB3, A9 PB7, A10 PE0, A11 VDD, A12 PI7, B1 PH13, B2 PI3, B3 PC11, B4 PD4, B5 VDD, B6 PG11, B7 VSS, B8 PB5, B9 PB8, B10 VSS, B11 PI6, B12 PE5, C1 VSS, C2 VDD, C3 PI1, C4 PC12, C5 PD2, C6 PD5, C7 PG10, C8 PB4, C9 PE1, C10 PI5, C11 PE4, C12 VBAT, D1 PA13, D2 VCAP2, D3 PH14, D4 PA14, D5 PC10, D6 PD3, D7 PG9, D8 PG15, D9 PDR_ON, D10 PI4, D11 PE6, D12 PC13, E1 PA8, E2 PA9, E3 PA10, E4 PH15, E5 PI0, E6 PD0, E7 PD6, E8 PG13, E9 PB9, E10 PE3, E11 PC14, E12 PC15, F1 VDDUSB, F2 VSS, F3 PC6, F4 PC8, F5 PC9, F6 PA12, F7 PA11, F8 BOOT0, F9 PE2, F10 PI10, F11 PI11, F12 VSS, G1 PG5, G2 PG4, G3 PG6, G4 PG3, G5 PG2, G6 PG8, G7 PC7, G8 PB6, G9 PI9, G10 PF0, G11 VDD, G12 PF2, H1 VSSDSI, H2 DSIHOST_D1N, H3 DSIHOST_D1P, H4 PD13, H5 PB12, H6 PG7, H7 VSS, H8 PF15, H9 NRST, H10 PF1, H11 PF3, H12 PF5, J1 DSIHOST_CKP, J2 DSIHOST_CKN, J3 DSIHOST_D0N, J4 PD11, J5 PE14, J6 PG0, J7 PF13, J8 PA7, J9 PC0, J10 PF4, J11 VSS, J12 VDD, K1 VCAPDSI, K2 VDD12DSI, K3 DSIHOST_D0P, K4 PB13, K5 PB11, K6 PE9, K7 PF11, K8 PH5, K9 PA1, K10 PF10, K11 PH0, K12 PH1, L1 VDDDSI, L2 PD15, L3 PD14, L4 PD8, L5 PH9, L6 PE13, L7 PF14, L8 PA5, L9 PA2, L10 PA0, L11 VSSA, L12 PC1, M1 VSS, M2 PD12, M3 PD10, M4 PH10, M5 PH8, M6 PE12, M7 PE8, M8 PF12, M9 PA4, M10 PH4, M11 PH2, M12 VDDA, N1 PD9, N2 PB15, N3 PH11, N4 VCAP1, N5 PB10, N6 PE11, N7 PE7, N8 VSS, N9 PB1, N10 PA3, N11 VSS, N12 PH3, P1 PB14, P2 PH12, P3 VDD, P4 VSS, P5 PE15, P6 PE10, P7 PG1, P8 VDD, P9 PB2, P10 PB0, P11 PA6, P12 VDD

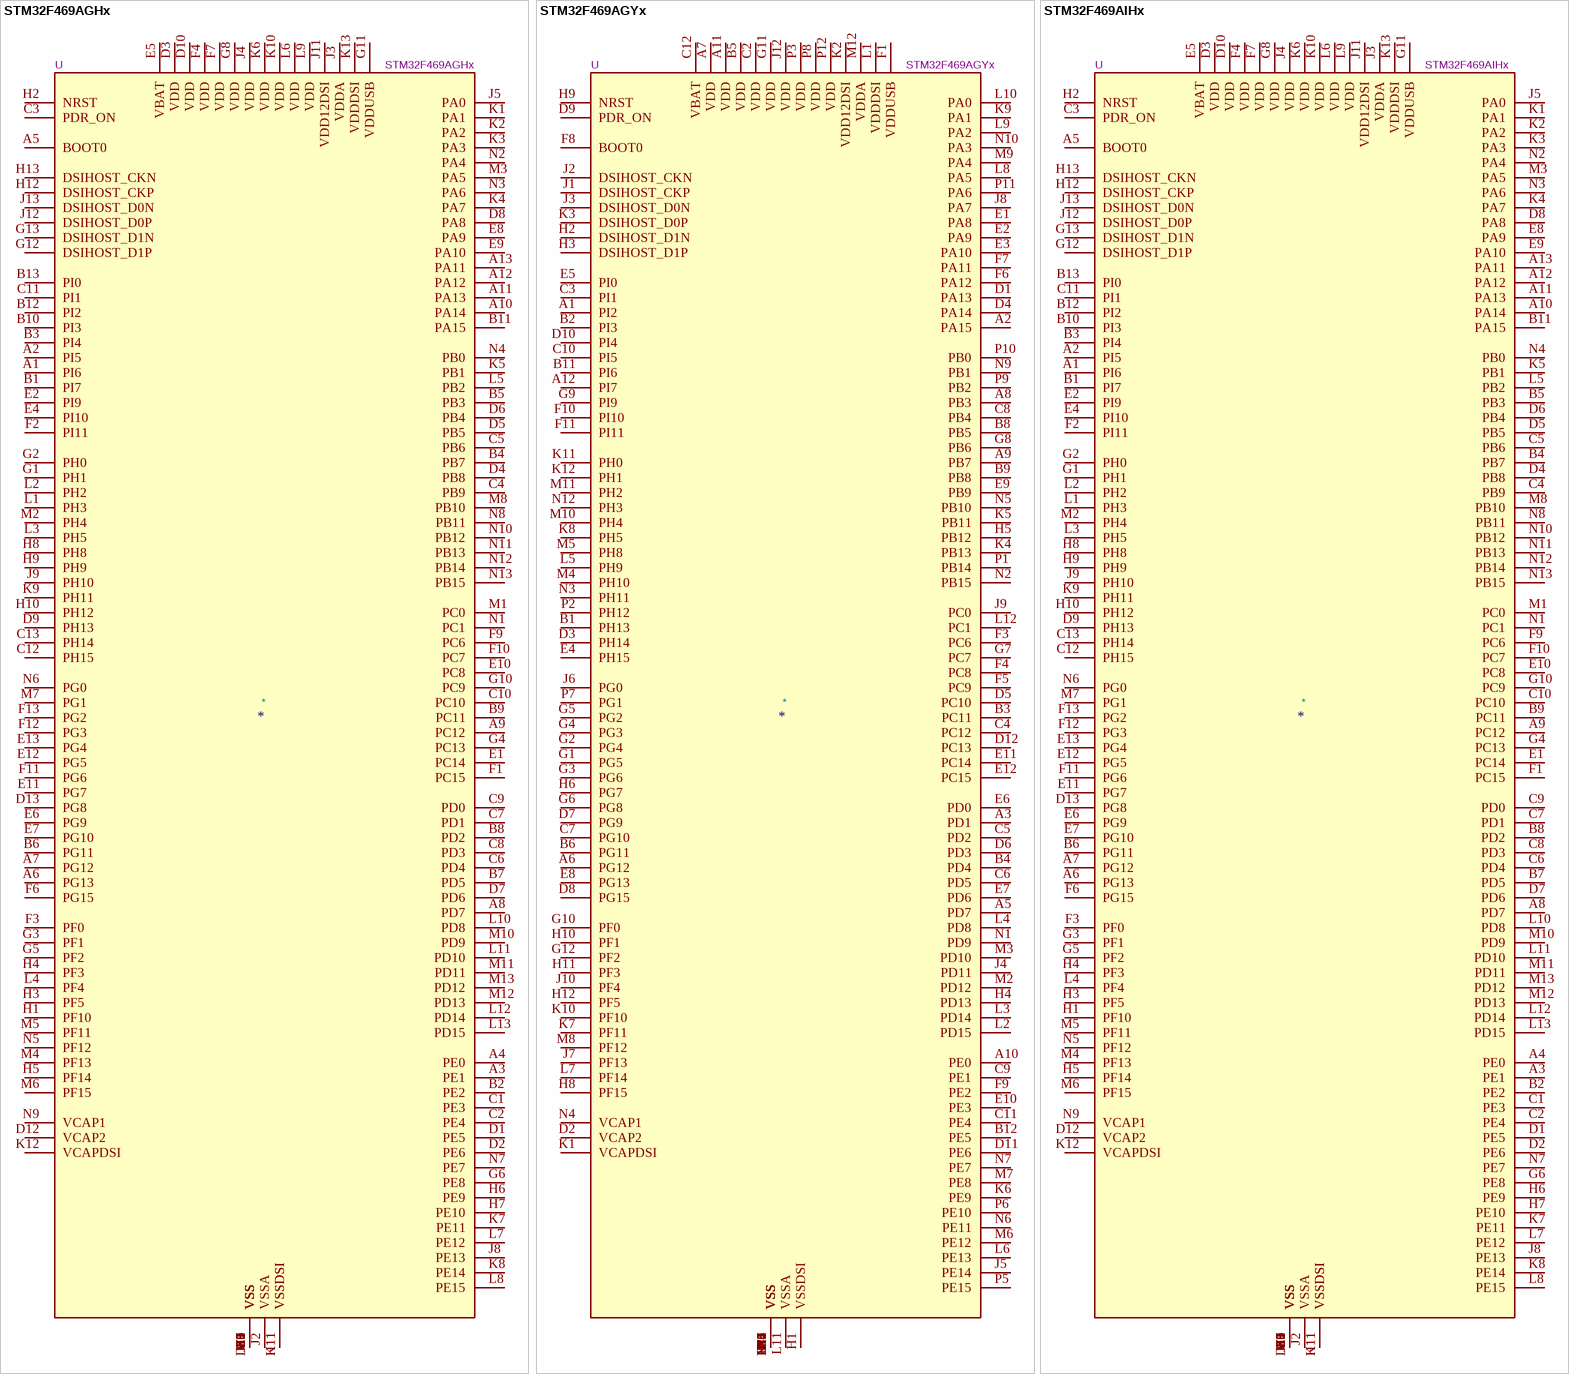
[diagram p62: symbols STM32F469AGHx to STM32F469AIHx]

## STM32F469AGHx
designator *  value STM32F469AGHx  Reference: U
STMicroelectronics Arm Cortex-M4 MCU, 1024KB flash, 384KB RAM, 180 MHz, 1.7-3.6V, 128 GPIO, UFBGA169; ki_keywords: Arm Cortex-M4 STM32F4 STM32F469/479; ki_fp_filters: UFBGA*7x7mm*Layout13x13*P0.5mm*; Footprint: Package_BGA:UFBGA-169_7x7mm_Layout13x13_P0.5mm; Datasheet: https://www.st.com/resource/en/datasheet/stm32f469ag.pdf; Description_: STMicroelectronics Arm Cortex-M4 MCU, 1024KB flash, 384KB RAM, 180 MHz, 1.7-3.6V, 128 GPIO, UFBGA169
pins: A1 PI6, A2 PI5, A3 PE1, A4 PE0, A5 BOOT0, A6 PG13, A7 PG12, A8 PD7, A9 PC12, A10 PA14, A11 PA13, A12 PA12, A13 PA11, B1 PI7, B2 PE2, B3 PI4, B4 PB7, B5 PB3, B6 PG11, B7 PD5, B8 PD2, B9 PC11, B10 PI3, B11 PA15, B12 PI2, B13 PI0, C1 PE3, C2 PE4, C3 PDR_ON, C4 PB9, C5 PB6, C6 PD4, C7 PD1, C8 PD3, C9 PD0, C10 PC10, C11 PI1, C12 PH15, C13 PH14, D1 PE5, D2 PE6, D3 VDD, D4 PB8, D5 PB5, D6 PB4, D7 PD6, D8 PA8, D9 PH13, D10 VDD, D11 VSS, D12 VCAP2, D13 PG8, E1 PC14, E2 PI9, E3 VSS, E4 PI10, E5 VBAT, E6 PG9, E7 PG10, E8 PA9, E9 PA10, E10 PC8, E11 PG7, E12 PG5, E13 PG4, F1 PC15, F2 PI11, F3 PF0, F4 VDD, F5 VSS, F6 PG15, F7 VDD, F8 VSS, F9 PC6, F10 PC7, F11 PG6, F12 PG3, F13 PG2, G1 PH1, G2 PH0, G3 PF1, G4 PC13, G5 PF2, G6 PE8, G7 VSS, G8 VDD, G9 VSS, G10 PC9, G11 VDDUSB, G12 DSIHOST_D1P, G13 DSIHOST_D1N, H1 PF10, H2 NRST, H3 PF5, H4 PF3, H5 PF14, H6 PE9, H7 PE10, H8 PH8, H9 PH9, H10 PH12, H11 VSSDSI, H12 DSIHOST_CKP, H13 DSIHOST_CKN, J1 VSS, J2 VSSA, J3 VDDA, J4 VDD, J5 PA0, J6 VSS, J7 VSS, J8 PE13, J9 PH10, J10 VSS, J11 VDD12DSI, J12 DSIHOST_D0P, J13 DSIHOST_D0N, K1 PA1, K2 PA2, K3 PA3, K4 PA7, K5 PB1, K6 VDD, K7 PE11, K8 PE14, K9 PH11, K10 VDD, K11 VSSDSI, K12 VCAPDSI, K13 VDDDSI, L1 PH3, L2 PH2, L3 PH5, L4 PF4, L5 PB2, L6 VDD, L7 PE12, L8 PE15, L9 VDD, L10 PD8, L11 PD10, L12 PD14, L13 PD15, M1 PC0, M2 PH4, M3 PA5, M4 PF13, M5 PF11, M6 PF15, M7 PG1, M8 PB10, M9 VSS, M10 PD9, M11 PD11, M12 PD13, M13 PD12, N1 PC1, N2 PA4, N3 PA6, N4 PB0, N5 PF12, N6 PG0, N7 PE7, N8 PB11, N9 VCAP1, N10 PB12, N11 PB13, N12 PB14, N13 PB15

## STM32F469AGYx
designator *  value STM32F469AGYx  Reference: U
STMicroelectronics Arm Cortex-M4 MCU, 1024KB flash, 384KB RAM, 180 MHz, 1.7-3.6V, 128 GPIO, WLCSP168; ki_keywords: Arm Cortex-M4 STM32F4 STM32F469/479; ki_fp_filters: ST*WLCSP*Die434*; Footprint: Package_CSP:ST_WLCSP-168_Die434; Datasheet: https://www.st.com/resource/en/datasheet/stm32f469ag.pdf; Description_: STMicroelectronics Arm Cortex-M4 MCU, 1024KB flash, 384KB RAM, 180 MHz, 1.7-3.6V, 128 GPIO, WLCSP168
pins: A1 PI2, A2 PA15, A3 PD1, A4 VSS, A5 PD7, A6 PG12, A7 VDD, A8 PB3, A9 PB7, A10 PE0, A11 VDD, A12 PI7, B1 PH13, B2 PI3, B3 PC11, B4 PD4, B5 VDD, B6 PG11, B7 VSS, B8 PB5, B9 PB8, B10 VSS, B11 PI6, B12 PE5, C1 VSS, C2 VDD, C3 PI1, C4 PC12, C5 PD2, C6 PD5, C7 PG10, C8 PB4, C9 PE1, C10 PI5, C11 PE4, C12 VBAT, D1 PA13, D2 VCAP2, D3 PH14, D4 PA14, D5 PC10, D6 PD3, D7 PG9, D8 PG15, D9 PDR_ON, D10 PI4, D11 PE6, D12 PC13, E1 PA8, E2 PA9, E3 PA10, E4 PH15, E5 PI0, E6 PD0, E7 PD6, E8 PG13, E9 PB9, E10 PE3, E11 PC14, E12 PC15, F1 VDDUSB, F2 VSS, F3 PC6, F4 PC8, F5 PC9, F6 PA12, F7 PA11, F8 BOOT0, F9 PE2, F10 PI10, F11 PI11, F12 VSS, G1 PG5, G2 PG4, G3 PG6, G4 PG3, G5 PG2, G6 PG8, G7 PC7, G8 PB6, G9 PI9, G10 PF0, G11 VDD, G12 PF2, H1 VSSDSI, H2 DSIHOST_D1N, H3 DSIHOST_D1P, H4 PD13, H5 PB12, H6 PG7, H7 VSS, H8 PF15, H9 NRST, H10 PF1, H11 PF3, H12 PF5, J1 DSIHOST_CKP, J2 DSIHOST_CKN, J3 DSIHOST_D0N, J4 PD11, J5 PE14, J6 PG0, J7 PF13, J8 PA7, J9 PC0, J10 PF4, J11 VSS, J12 VDD, K1 VCAPDSI, K2 VDD12DSI, K3 DSIHOST_D0P, K4 PB13, K5 PB11, K6 PE9, K7 PF11, K8 PH5, K9 PA1, K10 PF10, K11 PH0, K12 PH1, L1 VDDDSI, L2 PD15, L3 PD14, L4 PD8, L5 PH9, L6 PE13, L7 PF14, L8 PA5, L9 PA2, L10 PA0, L11 VSSA, L12 PC1, M1 VSS, M2 PD12, M3 PD10, M4 PH10, M5 PH8, M6 PE12, M7 PE8, M8 PF12, M9 PA4, M10 PH4, M11 PH2, M12 VDDA, N1 PD9, N2 PB15, N3 PH11, N4 VCAP1, N5 PB10, N6 PE11, N7 PE7, N8 VSS, N9 PB1, N10 PA3, N11 VSS, N12 PH3, P1 PB14, P2 PH12, P3 VDD, P4 VSS, P5 PE15, P6 PE10, P7 PG1, P8 VDD, P9 PB2, P10 PB0, P11 PA6, P12 VDD

## STM32F469AIHx
designator *  value STM32F469AIHx  Reference: U
STMicroelectronics Arm Cortex-M4 MCU, 2048KB flash, 384KB RAM, 180 MHz, 1.7-3.6V, 128 GPIO, UFBGA169; ki_keywords: Arm Cortex-M4 STM32F4 STM32F469/479; ki_fp_filters: UFBGA*7x7mm*Layout13x13*P0.5mm*; Footprint: Package_BGA:UFBGA-169_7x7mm_Layout13x13_P0.5mm; Datasheet: https://www.st.com/resource/en/datasheet/stm32f469ai.pdf; Description_: STMicroelectronics Arm Cortex-M4 MCU, 2048KB flash, 384KB RAM, 180 MHz, 1.7-3.6V, 128 GPIO, UFBGA169
pins: A1 PI6, A2 PI5, A3 PE1, A4 PE0, A5 BOOT0, A6 PG13, A7 PG12, A8 PD7, A9 PC12, A10 PA14, A11 PA13, A12 PA12, A13 PA11, B1 PI7, B2 PE2, B3 PI4, B4 PB7, B5 PB3, B6 PG11, B7 PD5, B8 PD2, B9 PC11, B10 PI3, B11 PA15, B12 PI2, B13 PI0, C1 PE3, C2 PE4, C3 PDR_ON, C4 PB9, C5 PB6, C6 PD4, C7 PD1, C8 PD3, C9 PD0, C10 PC10, C11 PI1, C12 PH15, C13 PH14, D1 PE5, D2 PE6, D3 VDD, D4 PB8, D5 PB5, D6 PB4, D7 PD6, D8 PA8, D9 PH13, D10 VDD, D11 VSS, D12 VCAP2, D13 PG8, E1 PC14, E2 PI9, E3 VSS, E4 PI10, E5 VBAT, E6 PG9, E7 PG10, E8 PA9, E9 PA10, E10 PC8, E11 PG7, E12 PG5, E13 PG4, F1 PC15, F2 PI11, F3 PF0, F4 VDD, F5 VSS, F6 PG15, F7 VDD, F8 VSS, F9 PC6, F10 PC7, F11 PG6, F12 PG3, F13 PG2, G1 PH1, G2 PH0, G3 PF1, G4 PC13, G5 PF2, G6 PE8, G7 VSS, G8 VDD, G9 VSS, G10 PC9, G11 VDDUSB, G12 DSIHOST_D1P, G13 DSIHOST_D1N, H1 PF10, H2 NRST, H3 PF5, H4 PF3, H5 PF14, H6 PE9, H7 PE10, H8 PH8, H9 PH9, H10 PH12, H11 VSSDSI, H12 DSIHOST_CKP, H13 DSIHOST_CKN, J1 VSS, J2 VSSA, J3 VDDA, J4 VDD, J5 PA0, J6 VSS, J7 VSS, J8 PE13, J9 PH10, J10 VSS, J11 VDD12DSI, J12 DSIHOST_D0P, J13 DSIHOST_D0N, K1 PA1, K2 PA2, K3 PA3, K4 PA7, K5 PB1, K6 VDD, K7 PE11, K8 PE14, K9 PH11, K10 VDD, K11 VSSDSI, K12 VCAPDSI, K13 VDDDSI, L1 PH3, L2 PH2, L3 PH5, L4 PF4, L5 PB2, L6 VDD, L7 PE12, L8 PE15, L9 VDD, L10 PD8, L11 PD10, L12 PD14, L13 PD15, M1 PC0, M2 PH4, M3 PA5, M4 PF13, M5 PF11, M6 PF15, M7 PG1, M8 PB10, M9 VSS, M10 PD9, M11 PD11, M12 PD13, M13 PD12, N1 PC1, N2 PA4, N3 PA6, N4 PB0, N5 PF12, N6 PG0, N7 PE7, N8 PB11, N9 VCAP1, N10 PB12, N11 PB13, N12 PB14, N13 PB15

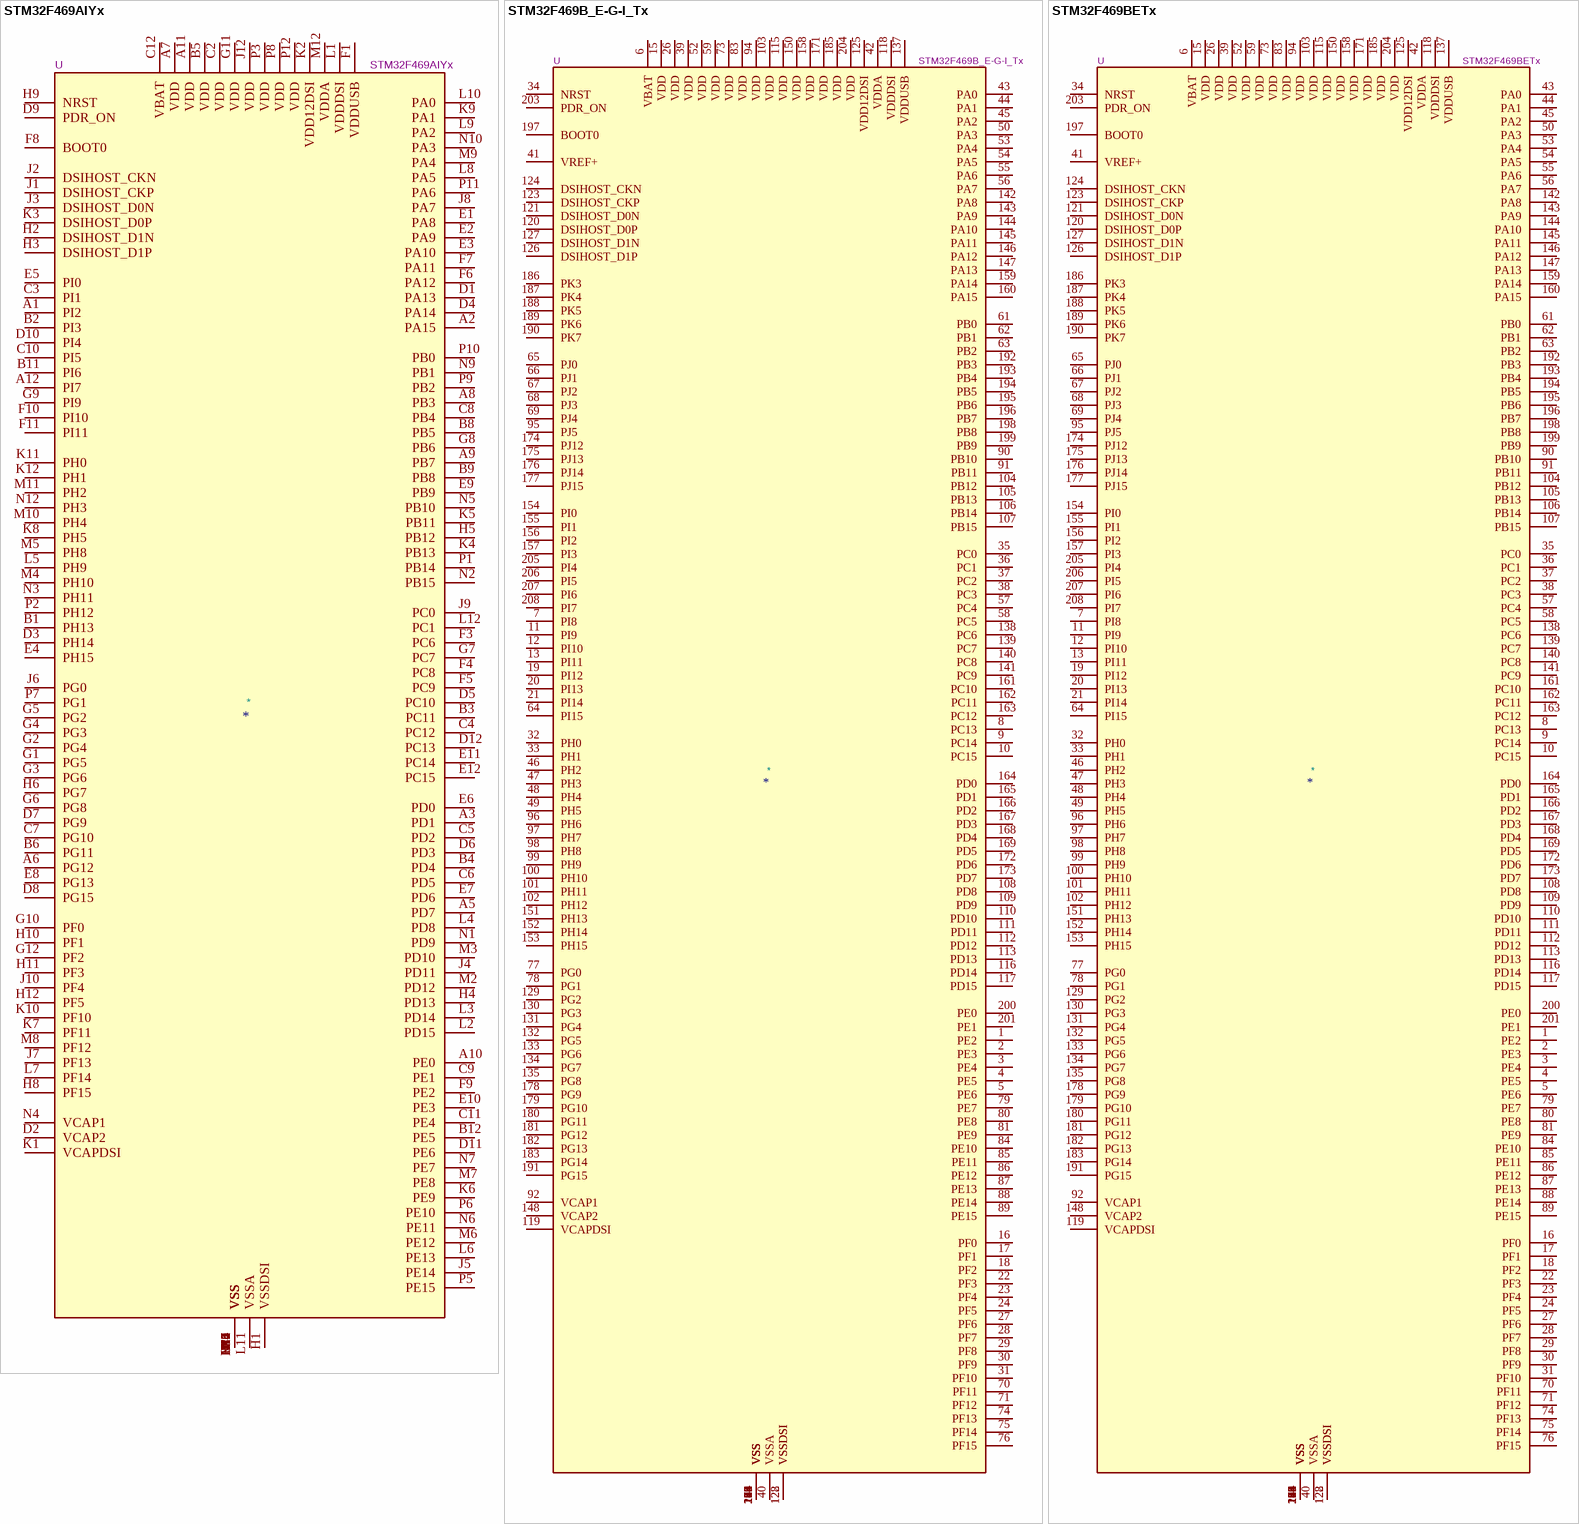
[diagram p63: symbols STM32F469AIYx to STM32F469BETx]

## STM32F469AIYx
designator *  value STM32F469AIYx  Reference: U
STMicroelectronics Arm Cortex-M4 MCU, 2048KB flash, 384KB RAM, 180 MHz, 1.7-3.6V, 128 GPIO, WLCSP168; ki_keywords: Arm Cortex-M4 STM32F4 STM32F469/479; ki_fp_filters: ST*WLCSP*Die434*; Footprint: Package_CSP:ST_WLCSP-168_Die434; Datasheet: https://www.st.com/resource/en/datasheet/stm32f469ai.pdf; Description_: STMicroelectronics Arm Cortex-M4 MCU, 2048KB flash, 384KB RAM, 180 MHz, 1.7-3.6V, 128 GPIO, WLCSP168
pins: A1 PI2, A2 PA15, A3 PD1, A4 VSS, A5 PD7, A6 PG12, A7 VDD, A8 PB3, A9 PB7, A10 PE0, A11 VDD, A12 PI7, B1 PH13, B2 PI3, B3 PC11, B4 PD4, B5 VDD, B6 PG11, B7 VSS, B8 PB5, B9 PB8, B10 VSS, B11 PI6, B12 PE5, C1 VSS, C2 VDD, C3 PI1, C4 PC12, C5 PD2, C6 PD5, C7 PG10, C8 PB4, C9 PE1, C10 PI5, C11 PE4, C12 VBAT, D1 PA13, D2 VCAP2, D3 PH14, D4 PA14, D5 PC10, D6 PD3, D7 PG9, D8 PG15, D9 PDR_ON, D10 PI4, D11 PE6, D12 PC13, E1 PA8, E2 PA9, E3 PA10, E4 PH15, E5 PI0, E6 PD0, E7 PD6, E8 PG13, E9 PB9, E10 PE3, E11 PC14, E12 PC15, F1 VDDUSB, F2 VSS, F3 PC6, F4 PC8, F5 PC9, F6 PA12, F7 PA11, F8 BOOT0, F9 PE2, F10 PI10, F11 PI11, F12 VSS, G1 PG5, G2 PG4, G3 PG6, G4 PG3, G5 PG2, G6 PG8, G7 PC7, G8 PB6, G9 PI9, G10 PF0, G11 VDD, G12 PF2, H1 VSSDSI, H2 DSIHOST_D1N, H3 DSIHOST_D1P, H4 PD13, H5 PB12, H6 PG7, H7 VSS, H8 PF15, H9 NRST, H10 PF1, H11 PF3, H12 PF5, J1 DSIHOST_CKP, J2 DSIHOST_CKN, J3 DSIHOST_D0N, J4 PD11, J5 PE14, J6 PG0, J7 PF13, J8 PA7, J9 PC0, J10 PF4, J11 VSS, J12 VDD, K1 VCAPDSI, K2 VDD12DSI, K3 DSIHOST_D0P, K4 PB13, K5 PB11, K6 PE9, K7 PF11, K8 PH5, K9 PA1, K10 PF10, K11 PH0, K12 PH1, L1 VDDDSI, L2 PD15, L3 PD14, L4 PD8, L5 PH9, L6 PE13, L7 PF14, L8 PA5, L9 PA2, L10 PA0, L11 VSSA, L12 PC1, M1 VSS, M2 PD12, M3 PD10, M4 PH10, M5 PH8, M6 PE12, M7 PE8, M8 PF12, M9 PA4, M10 PH4, M11 PH2, M12 VDDA, N1 PD9, N2 PB15, N3 PH11, N4 VCAP1, N5 PB10, N6 PE11, N7 PE7, N8 VSS, N9 PB1, N10 PA3, N11 VSS, N12 PH3, P1 PB14, P2 PH12, P3 VDD, P4 VSS, P5 PE15, P6 PE10, P7 PG1, P8 VDD, P9 PB2, P10 PB0, P11 PA6, P12 VDD

## STM32F469B_E-G-I_Tx
designator *  value STM32F469B_E-G-I_Tx  Reference: U
STMicroelectronics Arm Cortex-M4 MCU, 512-2048KB flash, 384KB RAM, 180 MHz, 1.7-3.6V, 159 GPIO, LQFP208; ki_keywords: Arm Cortex-M4 STM32F4 STM32F469/479; ki_fp_filters: LQFP*28x28mm*P0.5mm*; Footprint: Package_QFP:LQFP-208_28x28mm_P0.5mm; Datasheet: https://www.st.com/resource/en/datasheet/stm32f469be.pdf; Description_: STMicroelectronics Arm Cortex-M4 MCU, 512-2048KB flash, 384KB RAM, 180 MHz, 1.7-3.6V, 159 GPIO, LQFP208
pins: 1 PE2, 2 PE3, 3 PE4, 4 PE5, 5 PE6, 6 VBAT, 7 PI8, 8 PC13, 9 PC14, 10 PC15, 11 PI9, 12 PI10, 13 PI11, 14 VSS, 15 VDD, 16 PF0, 17 PF1, 18 PF2, 19 PI12, 20 PI13, 21 PI14, 22 PF3, 23 PF4, 24 PF5, 25 VSS, 26 VDD, 27 PF6, 28 PF7, 29 PF8, 30 PF9, 31 PF10, 32 PH0, 33 PH1, 34 NRST, 35 PC0, 36 PC1, 37 PC2, 38 PC3, 39 VDD, 40 VSSA, 41 VREF+, 42 VDDA, 43 PA0, 44 PA1, 45 PA2, 46 PH2, 47 PH3, 48 PH4, 49 PH5, 50 PA3, 51 VSS, 52 VDD, 53 PA4, 54 PA5, 55 PA6, 56 PA7, 57 PC4, 58 PC5, 59 VDD, 60 VSS, 61 PB0, 62 PB1, 63 PB2, 64 PI15, 65 PJ0, 66 PJ1, 67 PJ2, 68 PJ3, 69 PJ4, 70 PF11, 71 PF12, 72 VSS, 73 VDD, 74 PF13, 75 PF14, 76 PF15, 77 PG0, 78 PG1, 79 PE7, 80 PE8, 81 PE9, 82 VSS, 83 VDD, 84 PE10, 85 PE11, 86 PE12, 87 PE13, 88 PE14, 89 PE15, 90 PB10, 91 PB11, 92 VCAP1, 93 VSS, 94 VDD, 95 PJ5, 96 PH6, 97 PH7, 98 PH8, 99 PH9, 100 PH10, 101 PH11, 102 PH12, 103 VDD, 104 PB12, 105 PB13, 106 PB14, 107 PB15, 108 PD8, 109 PD9, 110 PD10, 111 PD11, 112 PD12, 113 PD13, 114 VSS, 115 VDD, 116 PD14, 117 PD15, 118 VDDDSI, 119 VCAPDSI, 120 DSIHOST_D0P, 121 DSIHOST_D0N, 122 VSSDSI, 123 DSIHOST_CKP, 124 DSIHOST_CKN, 125 VDD12DSI, 126 DSIHOST_D1P, 127 DSIHOST_D1N, 128 VSSDSI, 129 PG2, 130 PG3, 131 PG4, 132 PG5, 133 PG6, 134 PG7, 135 PG8, 136 VSS, 137 VDDUSB, 138 PC6, 139 PC7, 140 PC8, 141 PC9, 142 PA8, 143 PA9, 144 PA10, 145 PA11, 146 PA12, 147 PA13, 148 VCAP2, 149 VSS, 150 VDD, 151 PH13, 152 PH14, 153 PH15, 154 PI0, 155 PI1, 156 PI2, 157 PI3, 158 VDD, 159 PA14, 160 PA15, 161 PC10, 162 PC11, 163 PC12, 164 PD0, 165 PD1, 166 PD2, 167 PD3, 168 PD4, 169 PD5, 170 VSS, 171 VDD, 172 PD6, 173 PD7, 174 PJ12, 175 PJ13, 176 PJ14, 177 PJ15, 178 PG9, 179 PG10, 180 PG11, 181 PG12, 182 PG13, 183 PG14, 184 VSS, 185 VDD, 186 PK3, 187 PK4, 188 PK5, 189 PK6, 190 PK7, 191 PG15, 192 PB3, 193 PB4, 194 PB5, 195 PB6, 196 PB7, 197 BOOT0, 198 PB8, 199 PB9, 200 PE0, 201 PE1, 202 VSS, 203 PDR_ON, 204 VDD, 205 PI4, 206 PI5, 207 PI6, 208 PI7